# Altium schematic symbol library PART.SCHLIB: 421 symbols (part 3 of 4)
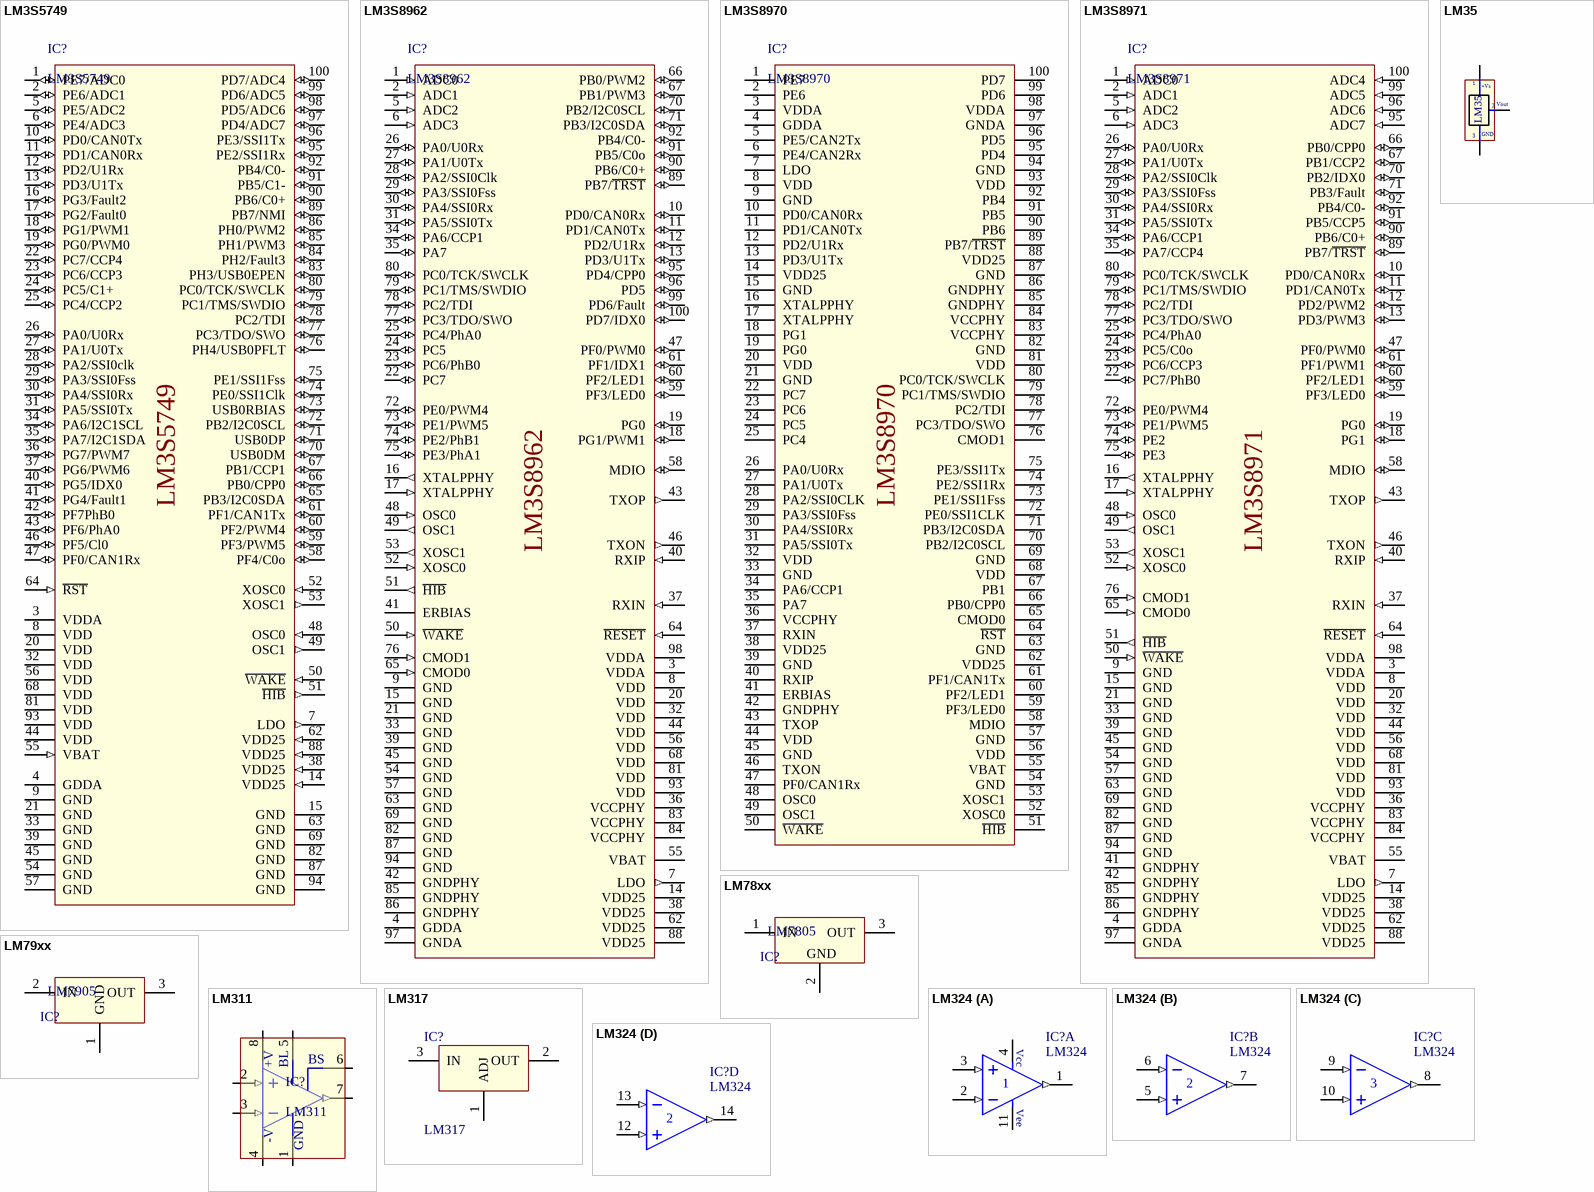
[diagram p20: symbols LM3S5749 to LM324]

## LM3S5749
designator IC?
Stellaris® LM3S5749 Microcontroller; MCU: LM3S5B91,LM3S5U91,LM3S5791
footprint TQFP-100-14x14 (Thin QFP, 100-Leads, Body 14x14mm, Pitch 0.5mm, IPC Low Density)
pins: 1 PE7/ADC0 (io), 2 PE6/ADC1 (io), 3 VDDA, 4 GDDA, 5 PE5/ADC2 (io), 6 PE4/ADC3 (io), 7 LDO (out), 8 VDD, 9 GND, 10 PD0/CAN0Tx (io), 11 PD1/CAN0Rx (io), 12 PD2/U1Rx (io), 13 PD3/U1Tx (io), 14 VDD25 (in), 15 GND, 16 PG3/Fault2 (io), 17 PG2/Fault0 (io), 18 PG1/PWM1 (io), 19 PG0/PWM0 (io), 20 VDD, 21 GND, 22 PC7/CCP4 (io), 23 PC6/CCP3 (io), 24 PC5/C1+ (io), 25 PC4/CCP2 (io), 26 PA0/U0Rx (io), 27 PA1/U0Tx (io), 28 PA2/SSI0clk (io), 29 PA3/SSI0Fss (io), 30 PA4/SSI0Rx (io), 31 PA5/SSI0Tx (io), 32 VDD, 33 GND, 34 PA6/I2C1SCL (io), 35 PA7/I2C1SDA (io), 36 PG7/PWM7 (io), 37 PG6/PWM6 (io), 38 VDD25 (in), 39 GND, 40 PG5/IDX0 (io), 41 PG4/Fault1 (io), 42 PF7PhB0 (io), 43 PF6/PhA0 (io), 44 VDD, 45 GND, 46 PF5/Cl0 (io), 47 PF0/CAN1Rx (io), 48 OSC0 (in), 49 OSC1 (out), 50 ~{WAKE} (in), 51 ~{HIB} (out), 52 XOSC0 (in), 53 XOSC1 (out), 54 GND, 55 VBAT (in), 56 VDD, 57 GND, 58 PF4/C0o (io), 59 PF3/PWM5 (io), 60 PF2/PWM4 (io), 61 PF1/CAN1Tx (io), 62 VDD25 (in), 63 GND, 64 ~{RST} (in), 65 PB3/I2C0SDA (io), 66 PB0/CPP0 (io), 67 PB1/CCP1 (io), 68 VDD, 69 GND, 70 USB0DM (io), 71 USB0DP (io), 72 PB2/I2C0SCL (io), 73 USB0RBIAS (io), 74 PE0/SSI1Clk (io), 75 PE1/SSI1Fss (io), 76 PH4/USB0PFLT (io), 77 PC3/TDO/SWO (io), 78 PC2/TDI (io), 79 PC1/TMS/SWDIO (io), 80 PC0/TCK/SWCLK (io), 81 VDD, 82 GND, 83 PH3/USB0EPEN (io), 84 PH2/Fault3 (io), 85 PH1/PWM3 (io), 86 PH0/PWM2 (io), 87 GND, 88 VDD25 (in), 89 PB7/NMI (io), 90 PB6/C0+ (io), 91 PB5/C1- (io), 92 PB4/C0- (io), 93 VDD, 94 GND, 95 PE2/SSI1Rx (io), 96 PE3/SSI1Tx (io), 97 PD4/ADC7 (io), 98 PD5/ADC6 (io), 99 PD6/ADC5 (io), 100 PD7/ADC4 (io)

## LM3S8962
designator IC?
Stellaris® LM3S8962 Microcontroller
footprint TQFP-100-14x14 (Thin QFP, 100-Leads, Body 14x14mm, Pitch 0.5mm, IPC Low Density)
pins: 1 ADC0 (in), 2 ADC1 (in), 3 VDDA, 4 GDDA, 5 ADC2 (in), 6 ADC3 (in), 7 LDO (out), 8 VDD, 9 GND, 10 PD0/CAN0Rx (io), 11 PD1/CAN0Tx (io), 12 PD2/U1Rx (io), 13 PD3/U1Tx (io), 14 VDD25, 15 GND, 16 XTALPPHY (out), 17 XTALPPHY (in), 18 PG1/PWM1 (io), 19 PG0 (io), 20 VDD, 21 GND, 22 PC7 (io), 23 PC6/PhB0 (io), 24 PC5 (io), 25 PC4/PhA0 (io), 26 PA0/U0Rx (io), 27 PA1/U0Tx (io), 28 PA2/SSI0Clk (io), 29 PA3/SSI0Fss (io), 30 PA4/SSI0Rx (io), 31 PA5/SSI0Tx (io), 32 VDD, 33 GND, 34 PA6/CCP1 (io), 35 PA7 (io), 36 VCCPHY, 37 RXIN (in), 38 VDD25, 39 GND, 40 RXIP (in), 41 ERBIAS, 42 GNDPHY, 43 TXOP (out), 44 VDD, 45 GND, 46 TXON (out), 47 PF0/PWM0 (io), 48 OSC0 (in), 49 OSC1 (out), 50 ~{WAKE} (in), 51 ~{HIB} (out), 52 XOSC0 (in), 53 XOSC1 (out), 54 GND, 55 VBAT, 56 VDD, 57 GND, 58 MDIO (io), 59 PF3/LED0 (io), 60 PF2/LED1 (io), 61 PF1/IDX1 (io), 62 VDD25, 63 GND, 64 ~{RESET} (in), 65 CMOD0 (in), 66 PB0/PWM2 (io), 67 PB1/PWM3 (io), 68 VDD, 69 GND, 70 PB2/I2C0SCL (io), 71 PB3/I2C0SDA (io), 72 PE0/PWM4 (io), 73 PE1/PWM5 (io), 74 PE2/PhB1 (io), 75 PE3/PhA1 (io), 76 CMOD1 (in), 77 PC3/TDO/SWO (io), 78 PC2/TDI (io), 79 PC1/TMS/SWDIO (io), 80 PC0/TCK/SWCLK (io), 81 VDD, 82 GND, 83 VCCPHY, 84 VCCPHY, 85 GNDPHY, 86 GNDPHY, 87 GND, 88 VDD25, 89 PB7/~{TRST} (io), 90 PB6/C0+ (io), 91 PB5/C0o (io), 92 PB4/C0- (io), 93 VDD, 94 GND, 95 PD4/CPP0 (io), 96 PD5 (io), 97 GNDA, 98 VDDA, 99 PD6/Fault (io), 100 PD7/IDX0 (io)

## LM3S8970
designator IC?
Stellaris® LM3S8970 Microcontroller
footprint TQFP-100-14x14 (Thin QFP, 100-Leads, Body 14x14mm, Pitch 0.5mm, IPC Low Density)
pins: 1 PE7, 2 PE6, 3 VDDA, 4 GDDA, 5 PE5/CAN2Tx, 6 PE4/CAN2Rx, 7 LDO, 8 VDD, 9 GND, 10 PD0/CAN0Rx, 11 PD1/CAN0Tx, 12 PD2/U1Rx, 13 PD3/U1Tx, 14 VDD25, 15 GND, 16 XTALPPHY, 17 XTALPPHY, 18 PG1, 19 PG0, 20 VDD, 21 GND, 22 PC7, 23 PC6, 24 PC5, 25 PC4, 26 PA0/U0Rx, 27 PA1/U0Tx, 28 PA2/SSI0CLK, 29 PA3/SSI0Fss, 30 PA4/SSI0Rx, 31 PA5/SSI0Tx, 32 VDD, 33 GND, 34 PA6/CCP1, 35 PA7, 36 VCCPHY, 37 RXIN, 38 VDD25, 39 GND, 40 RXIP, 41 ERBIAS, 42 GNDPHY, 43 TXOP, 44 VDD, 45 GND, 46 TXON, 47 PF0/CAN1Rx, 48 OSC0, 49 OSC1, 50 ~{WAKE}, 51 ~{HIB}, 52 XOSC0, 53 XOSC1, 54 GND, 55 VBAT, 56 VDD, 57 GND, 58 MDIO, 59 PF3/LED0, 60 PF2/LED1, 61 PF1/CAN1Tx, 62 VDD25, 63 GND, 64 ~{RST}, 65 CMOD0, 66 PB0/CPP0, 67 PB1, 68 VDD, 69 GND, 70 PB2/I2C0SCL, 71 PB3/I2C0SDA, 72 PE0/SSI1CLK, 73 PE1/SSI1Fss, 74 PE2/SSI1Rx, 75 PE3/SSI1Tx, 76 CMOD1, 77 PC3/TDO/SWO, 78 PC2/TDI, 79 PC1/TMS/SWDIO, 80 PC0/TCK/SWCLK, 81 VDD, 82 GND, 83 VCCPHY, 84 VCCPHY, 85 GNDPHY, 86 GNDPHY, 87 GND, 88 VDD25, 89 PB7/~{TRST}, 90 PB6, 91 PB5, 92 PB4, 93 VDD, 94 GND, 95 PD4, 96 PD5, 97 GNDA, 98 VDDA, 99 PD6, 100 PD7

## LM3S8971
designator IC?
Stellaris® LM3S8971 Microcontroller
footprint TQFP-100-14x14 (Thin QFP, 100-Leads, Body 14x14mm, Pitch 0.5mm, IPC Low Density)
pins: 1 ADC0 (in), 2 ADC1 (in), 3 VDDA, 4 GDDA, 5 ADC2 (in), 6 ADC3 (in), 7 LDO (out), 8 VDD, 9 GND, 10 PD0/CAN0Rx (io), 11 PD1/CAN0Tx (io), 12 PD2/PWM2 (io), 13 PD3/PWM3 (io), 14 VDD25, 15 GND, 16 XTALPPHY (out), 17 XTALPPHY (in), 18 PG1 (io), 19 PG0 (io), 20 VDD, 21 GND, 22 PC7/PhB0 (io), 23 PC6/CCP3 (io), 24 PC5/C0o (io), 25 PC4/PhA0 (io), 26 PA0/U0Rx (io), 27 PA1/U0Tx (io), 28 PA2/SSI0Clk (io), 29 PA3/SSI0Fss (io), 30 PA4/SSI0Rx (io), 31 PA5/SSI0Tx (io), 32 VDD, 33 GND, 34 PA6/CCP1 (io), 35 PA7/CCP4 (io), 36 VCCPHY, 37 RXIN (in), 38 VDD25, 39 GND, 40 RXIP (in), 41 GNDPHY, 42 GNDPHY, 43 TXOP (out), 44 VDD, 45 GND, 46 TXON (out), 47 PF0/PWM0 (io), 48 OSC0 (in), 49 OSC1 (out), 50 ~{WAKE} (in), 51 ~{HIB} (out), 52 XOSC0 (in), 53 XOSC1 (out), 54 GND, 55 VBAT, 56 VDD, 57 GND, 58 MDIO (io), 59 PF3/LED0 (io), 60 PF2/LED1 (io), 61 PF1/PWM1 (io), 62 VDD25, 63 GND, 64 ~{RESET} (in), 65 CMOD0 (in), 66 PB0/CPP0 (io), 67 PB1/CCP2 (io), 68 VDD, 69 GND, 70 PB2/IDX0 (io), 71 PB3/Fault (io), 72 PE0/PWM4 (io), 73 PE1/PWM5 (io), 74 PE2 (io), 75 PE3 (io), 76 CMOD1 (in), 77 PC3/TDO/SWO (io), 78 PC2/TDI (io), 79 PC1/TMS/SWDIO (io), 80 PC0/TCK/SWCLK (io), 81 VDD, 82 GND, 83 VCCPHY, 84 VCCPHY, 85 GNDPHY, 86 GNDPHY, 87 GND, 88 VDD25, 89 PB7/~{TRST} (io), 90 PB6/C0+ (io), 91 PB5/CCP5 (io), 92 PB4/C0- (io), 93 VDD, 94 GND, 95 ADC7 (in), 96 ADC6 (in), 97 GNDA, 98 VDDA, 99 ADC5 (in), 100 ADC4 (in)

## LM35
designator U?
Teminal; Value: LM35
footprint QTO-92 (TO-92)
pins: 1 +Vs, 2 Vout, 3 -
text: GND

## LM78xx
designator IC?, comment LM7805
On ap +, from + 5 to + 24VDC; Value: LM7805
footprint QTO-220 (TO-220 - 1-2-3)
footprint QTO-92 (TO-92)
footprint QTO-220H1 (TO-220 - 1-2-3)
pins: 1 IN, 2 GND, 3 OUT

## LM79xx
designator IC?, comment LM7905
On ap -, from - 5 to - 24VDC; Description: Output I = 1A; Value: LM7905
footprint QTO-220 (TO-220 - 1-2-3)
footprint qto-220h1 (TO-220 - 1-2-3)
pins: 1 GND, 2 IN, 3 OUT

## LM311
designator IC?
Voltage Comparator; Value: DIP 8; Value: LM311
footprint DIP8/W0.3 (8 PIN, W 300mil, Pin to pin 100mil)
footprint SO-8 (8-Pin Small Outline Integrated Circuit 1.27 mm Pitch, IPC Medium Density)
pins: 1 F2 (power), 2 IN+ (in), 3 IN- (in), 4 GND (power), 5 F1 (power), 6 F2 (power), 7 OUT (out), 8 V+ (power)
text: +V; BL; BS; -V

## LM317
designator IC?
Adj Voltage +1.2 -> +37V; Value: LM317
footprint QTO-220 (TO-220)
pins: 1 ADJ, 2 OUT, 3 IN

## LM324
designator IC?
Op x 4; Value: LM324
footprint DIP14/W0.3 (14PIN, W 300mil)
part A pins: 1 OUT (out), 2 IN- (in), 3 IN+ (in), 4 V+ (power), 11 V- (power)
part B pins: 5 IN+ (in), 6 IN- (in), 7 OUT (out)
part C pins: 8 OUT (out), 9 IN- (in), 10 IN+ (in)
part D pins: 12 IN+ (in), 13 IN- (in), 14 OUT (out)
part A text: Vcc; Vee

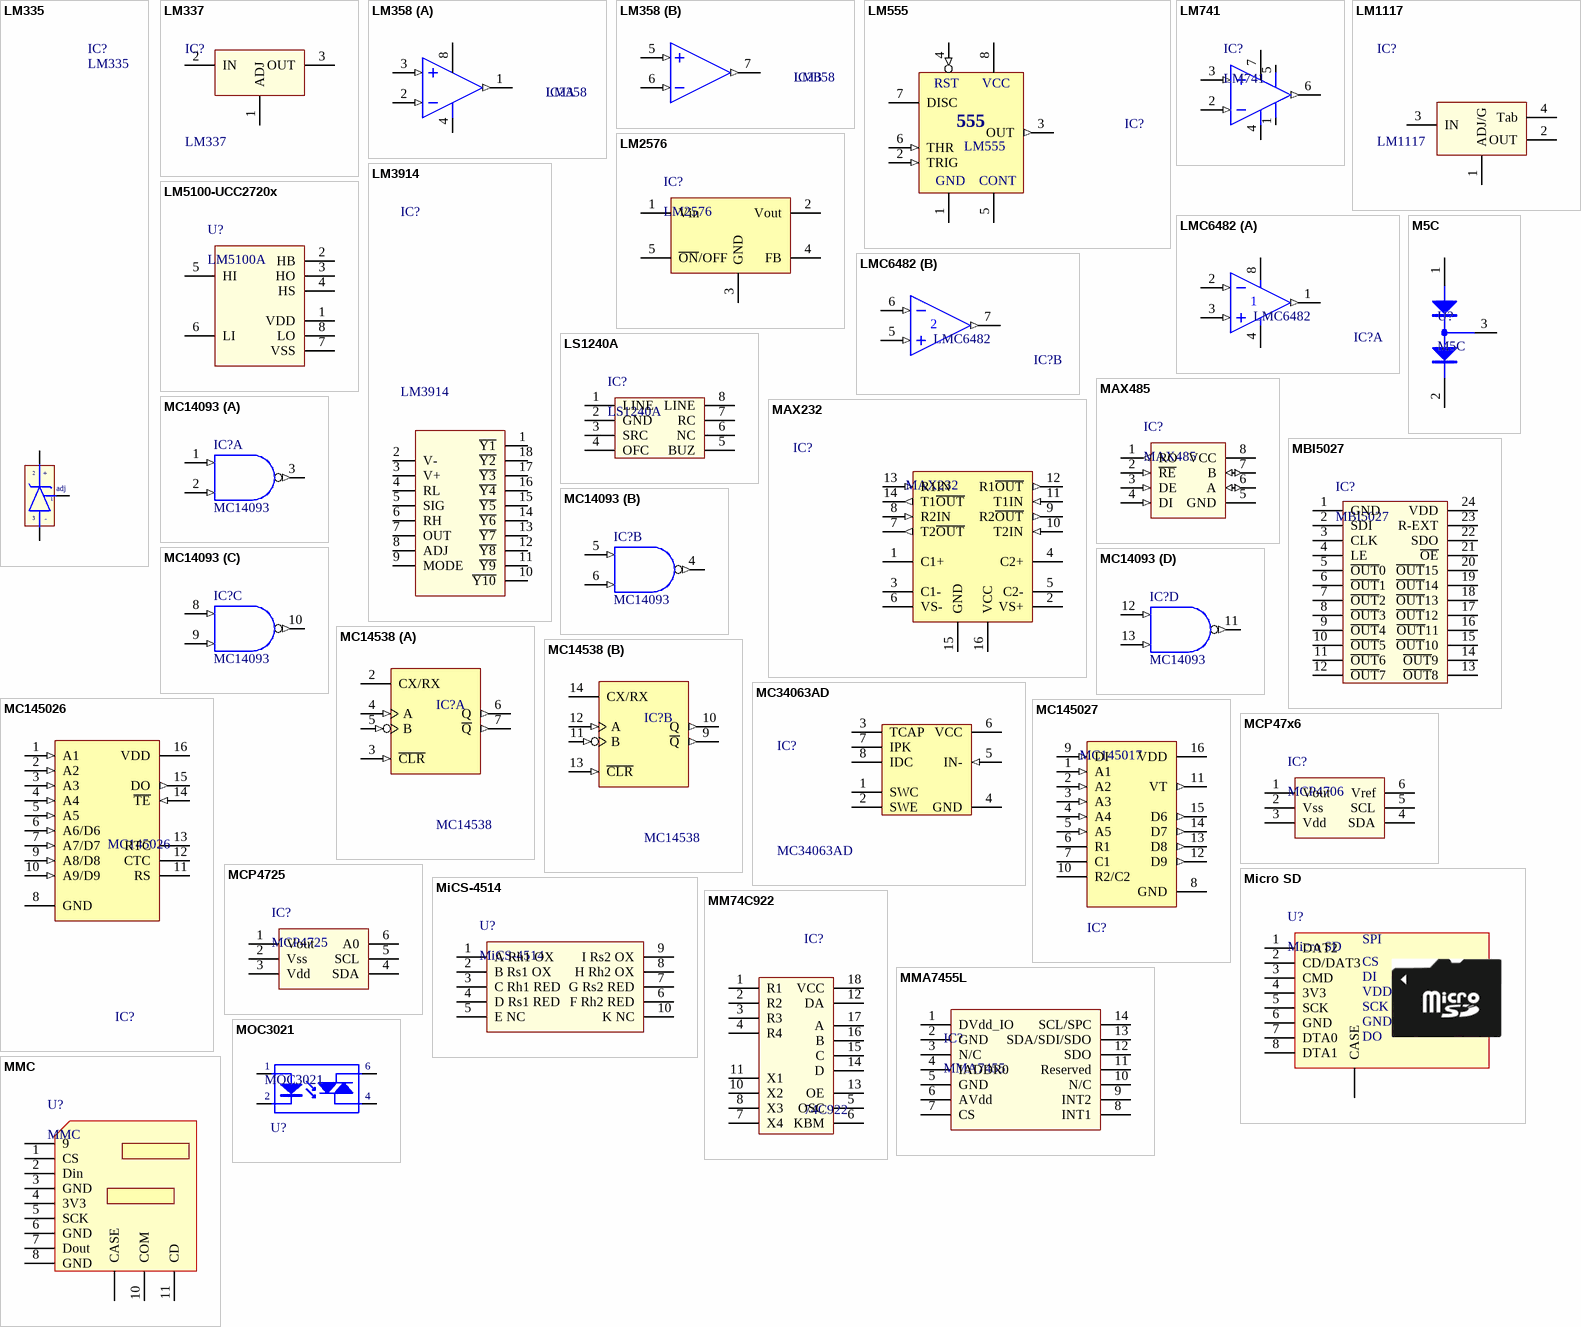
[diagram p13: symbols LM335 to MOC3021]

## LM335
designator IC?
Teminal; Value: LM335
footprint QTO-92 (TO-92)
pins: 1 adj, 2 +, 3 -

## LM337
designator IC?
On ap (-)     -1.2 -> - 37V; Value: LM337
footprint QTO-220 (TO-220 - 1-2-3)
pins: 1 ADJ, 2 IN, 3 OUT

## LM358
designator IC?
Low-Power Dual Operational Amplifier; Value: LM358
footprint DIP8/W0.3 (8 PIN, W 300mil)
3D model DIP8 (PCB3D Model)
footprint SO-8N (SOP, 8-Leads, Body 5.3x5.3mm, Pitch 1.27mm, IPC Medium Density)
part A pins: 1 OUT (out), 2 IN- (in), 3 IN+ (in), 4 -V, 8 +V
part B pins: 5 IN+ (in), 6 IN- (in), 7 OUT (out)

## LM555
designator IC?
Timer; Value: LM555
footprint DIP8/W0.3 (8 PIN, W 300mil)
3D model DIP8 (PCB3D Model)
pins: 1 GND (power), 2 TRIG (in), 3 OUT (out), 4 RST (in), 5 CONT, 6 THR (in), 7 DISC (oc), 8 VCC (power)
text: 555

## LM741
designator IC?
Single OA
footprint DIP8/W0.3 (8 PIN, W 300mil, Pin to pin 100mil)
pins: 1 Vos, 2 IN- (in), 3 IN+ (in), 4 -V, 5 Vos, 6 OUT (out), 7 +V

## LM1117
designator IC?
3v3; Value: LM317
footprint SOT223-4N (SOT223, 4-Leads, Body 6.5x3.5mm, Pitch 2.3mm, Lead Span 7mm, IPC Medium Density)
pins: 1 ADJ/G, 2 OUT, 3 IN, 4 Tab

## LM2576
designator IC?
footprint QTO-220-5S
footprint QTO-220-5 (TO-220 - 1-2-3)
footprint QTO-263 (SMD-5 pin, pin to pin 1.7mm)
pins: 1 Vin, 2 Vout, 3 GND, 4 FB, 5 ~{ON}/OFF

## LM3914
designator IC?
Value: LM3914
footprint DIP18/W0.3 (18 PIN, W 300mil)
3D model DIP18 (PCB3D Model)
pins: 1 ~{Y1}, 2 V-, 3 V+, 4 RL, 5 SIG, 6 RH, 7 OUT, 8 ADJ, 9 MODE, 10 ~{Y10}, 11 ~{Y9}, 12 ~{Y8}, 13 ~{Y7}, 14 ~{Y6}, 15 ~{Y5}, 16 ~{Y4}, 17 ~{Y3}, 18 ~{Y2}

## LM5100-UCC2720x
designator U?, comment LM5100A
High Voltage High-Side and Low-Side Gate  Drivers; Name: LM5100A/B/C; Name: LM5101A/B/C
footprint SO-8N (SOP, 8-Leads, Body 5.3x5.3mm, Pitch 1.27mm, IPC Medium Density)
footprint DIP8/W0.3 (8 PIN, W 300mil, Pin to pin 100mil)
pins: 1 VDD, 2 HB, 3 HO, 4 HS, 5 HI, 6 LI, 7 VSS, 8 LO

## LMC6482
designator IC?
Dual OA; Value: LMC6482
footprint DIP8/W0.3 (8 PIN, W 300mil)
3D model DIP8 (PCB3D Model)
part A pins: 1 OUT (out), 2 IN- (in), 3 IN+ (in), 4 V- (power), 8 V+ (power)
part B pins: 5 IN+ (in), 6 IN- (in), 7 OUT (out)

## LS1240A
designator IC?
Electronic Two-Tone Ringer
footprint DIP8/W0.3 (8 PIN, W 300mil, Pin to pin 100mil)
pins: 1 LINE, 2 GND, 3 SRC, 4 OFC, 5 BUZ, 6 NC, 7 RC, 8 LINE

## M5C
designator U?
MMBD7000LT1 - Diode
footprint SOT23 (SOT 23 _ 1-3-2)
pins: 1, 2, 3

## MAX232
designator IC?
Dual EIA-232 Driver/Receiver; Value: MAX232
footprint DIP16/W0.3 (16 PIN, W 300mil)
footprint SO-G16 (Footprint not found)
pins: 1 C1+, 2 VS+ (power), 3 C1-, 4 C2+, 5 C2-, 6 VS- (power), 7 T2~{OUT} (out), 8 R2IN (in), 9 R2~{OUT} (out), 10 T2IN (in), 11 T1IN (in), 12 R1~{OUT} (out), 13 R1IN (in), 14 T1~{OUT} (out), 15 GND (power), 16 VCC (power)

## MAX485
designator IC?
RS232 - RS485 (Same sn75176)
footprint DIP8/W0.3 (8 PIN, W 300mil, Pin to pin 100mil)
footprint SO-8N (SOP, 8-Leads, Body 5.3x5.3mm, Pitch 1.27mm, IPC Medium Density)
pins: 1 RO (out) "Receiver Output", 2 ~{RE} (in) "Receiver Enable Output", 3 DE (in) "Driver Enable Output", 4 DI (in) "Driver Input", 5 GND, 6 A (io) "RI & NoneDO", 7 B (io) "NoneDI", 8 VCC

## MBI5027
designator IC?
16 bit Constant Current LED; Creat by: VanDungEvn@Gmail.com; Compoment same: SM16126
footprint SOP_24M_127 (SOP, 24-Leads, Body 15.6x8.1mm, Pitch 1.27mm, IPC Low Density)
pins: 1 GND, 2 SDI, 3 CLK, 4 LE, 5 ~{OUT}0, 6 ~{OUT}1, 7 ~{OUT}2, 8 ~{OUT}3, 9 ~{OUT}4, 10 ~{OUT}5, 11 ~{OUT}6, 12 ~{OUT}7, 13 ~{OUT}8, 14 ~{OUT}9, 15 ~{OUT}10, 16 ~{OUT}11, 17 ~{OUT}12, 18 ~{OUT}13, 19 ~{OUT}14, 20 ~{OUT}15, 21 ~{OE}, 22 SDO, 23 R-EXT, 24 VDD

## MC14093
designator IC?
Quad 2-Input NAND Schmitt Trigger; Value: MC14093
footprint DIP14/W0.3 (14PIN, W 300mil)
pins on every part: 7 GND (power) hidden to GND, 14 VDD (power) hidden to VDD
part A pins: 1 A (in), 2 B (in), 3 ~{Y} (out)
part B pins: 4 ~{Y} (out), 5 A (in), 6 B (in)
part C pins: 8 A (in), 9 B (in), 10 ~{Y} (out)
part D pins: 11 ~{Y} (out), 12 A (in), 13 B (in)

## MC14538
designator IC?
Dual Precision Retriggerable/Resettable Monostable Multivibrator; Value: MC14538
footprint DIP16/W0.3 (16 PIN, W 300mil)
pins on every part: 1 GND (power) hidden to GND, 8 GND (power) hidden to GND, 15 GND (power) hidden to GND, 16 VDD (power) hidden to VDD
part A pins: 2 CX/RX, 3 ~{CLR} (in), 4 A (in), 5 B (in), 6 Q (out), 7 ~{Q} (out)
part B pins: 9 ~{Q} (out), 10 Q (out), 11 B (in), 12 A (in), 13 ~{CLR} (in), 14 CX/RX

## MC34063AD
designator IC?
DC-to-DC Converter Control Circuit; Published: 15-Apr-2002; LatestRevisionDate: 13-Apr-2006; LatestRevisionNote: IPC-7351 Footprint Added.; DatasheetVersion: 1996; PackageVersion: 1998; PackageReference: 751-05; Publisher: Altium Limited; PackageDescription: 8-Pin Small Outline Integrated Circuit 1.27 mm Pitch; Code_JEDEC: MS-012-AA; Code_IPC: SOIC127P600-8; ComponentLink1Description: Manufacturer Link; ComponentLink1URL: http://www.onsemi.com/site/products/taxonomy/0,4438,503,00.html; ComponentLink2Description: Datasheet; ComponentLink2URL: http://www.onsemi.com/pub/Collateral/MC34063A-D.PDF
footprint SO-G8/Z7.45 (Small Outline; 8 Leads; Body Width 3.9 mm; Pitch 1.27 mm)
footprint DIP8/W0.3 (8 PIN, W 300mil)
pins: 1 SWC, 2 SWE, 3 TCAP, 4 GND (power), 5 IN- (in), 6 VCC (power), 7 IPK, 8 IDC (oc)

## MC145026
designator IC?
Encoder Remote; Value: MC145026
footprint DIP16/W0.3 (16 PIN, W 300mil)
pins: 1 A1 (in), 2 A2 (in), 3 A3 (in), 4 A4 (in), 5 A5 (in), 6 A6/D6 (in), 7 A7/D7 (in), 8 GND (power), 9 A8/D8 (in), 10 A9/D9 (in), 11 RS, 12 CTC, 13 RTC, 14 ~{TE} (in), 15 DO (out), 16 VDD (power)

## MC145027
designator IC?, comment MC145017
Decoder Remote; Value: MC145027
footprint DIP16/W0.3 (16 PIN, W 300mil)
pins: 1 A1 (in), 2 A2 (in), 3 A3 (in), 4 A4 (in), 5 A5 (in), 6 R1, 7 C1, 8 GND (power), 9 DI (in), 10 R2/C2, 11 VT (out), 12 D9 (out), 13 D8 (out), 14 D7 (out), 15 D6 (out), 16 VDD (power)

## MCP47x6
designator IC?, comment MCP4706
8-10-12 Bits Volttage Output Digital-to-Analog Converter with EEPROM and I2C Interface
footprint SOT23-6 (Footprint not found)
pins: 1 Vout, 2 Vss, 3 Vdd, 4 SDA, 5 SCL, 6 Vref

## MCP4725
designator IC?
12 Bits Volttage Output Digital-to-Analog Converter with EEPROM and I2C Interface
footprint SOT23-6 (Footprint not found)
pins: 1 Vout, 2 Vss, 3 Vdd, 4 SDA, 5 SCL, 6 A0

## Micro SD
designator U?
footprint MicroSD-GTFP08121HEU (Push anh lock, push end open (15.2x14.0x1.88mm))
pins: 0 CASE, 1 DAT2, 2 CD/DAT3, 3 CMD, 4 3V3, 5 SCK, 6 GND, 7 DTA0, 8 DTA1
text: SPI; CS; DI; VDD; DO

## MiCS-4514
designator U?
Combined CO and NO2 Sensor
footprint SO10-MICS-4514 (10 pn)
pins: 1 A Rh1 OX, 2 B Rs1 OX, 3 C Rh1 RED, 4 D Rs1 RED, 5 E NC, 6 F Rh2 RED, 7 G Rs2 RED, 8 H Rh2 OX, 9 I Rs2 OX, 10 K NC

## MM74C922
designator IC?, comment 74C922
16 Key Encoder With Debouncer; Value: MM74C922
footprint DIP18/W0.3 (18 PIN, W 300mil)
3D model DIP18 (PCB3D Model)
pins: 1 R1, 2 R2, 3 R3, 4 R4, 5 OSC, 6 KBM, 7 X4, 8 X3, 9 GND hidden to GND, 10 X2, 11 X1, 12 DA, 13 OE, 14 D, 15 C, 16 B, 17 A, 18 VCC

## MMA7455L
designator IC?, comment MMA7455
±2g/±4g/±8g Three Axis Low-g  Digital Output Accelerometer
footprint MMA7455 (Footprint not found)
pins: 1 DVdd_IO, 2 GND, 3 N/C, 4 IADDR0, 5 GND, 6 AVdd, 7 CS, 8 INT1, 9 INT2, 10 N/C, 11 Reserved, 12 SDO, 13 SDA/SDI/SDO, 14 SCL/SPC

## MMC
designator U?
MMC card
footprint MMC
pins: 0 CASE, 1 CS, 2 Din, 3 GND, 4 3V3, 5 SCK, 6 GND, 7 Dout, 8 GND, 9, 10 COM, 11 CD

## MOC3021
designator U?
Single Opto; Value: MOC3021
footprint DIP6/W0.3 (6 PIN, W 300mil)
pins: 1 A "Anode", 2 K "Cathode", 4 E "Emitter", 6 C "Collector"

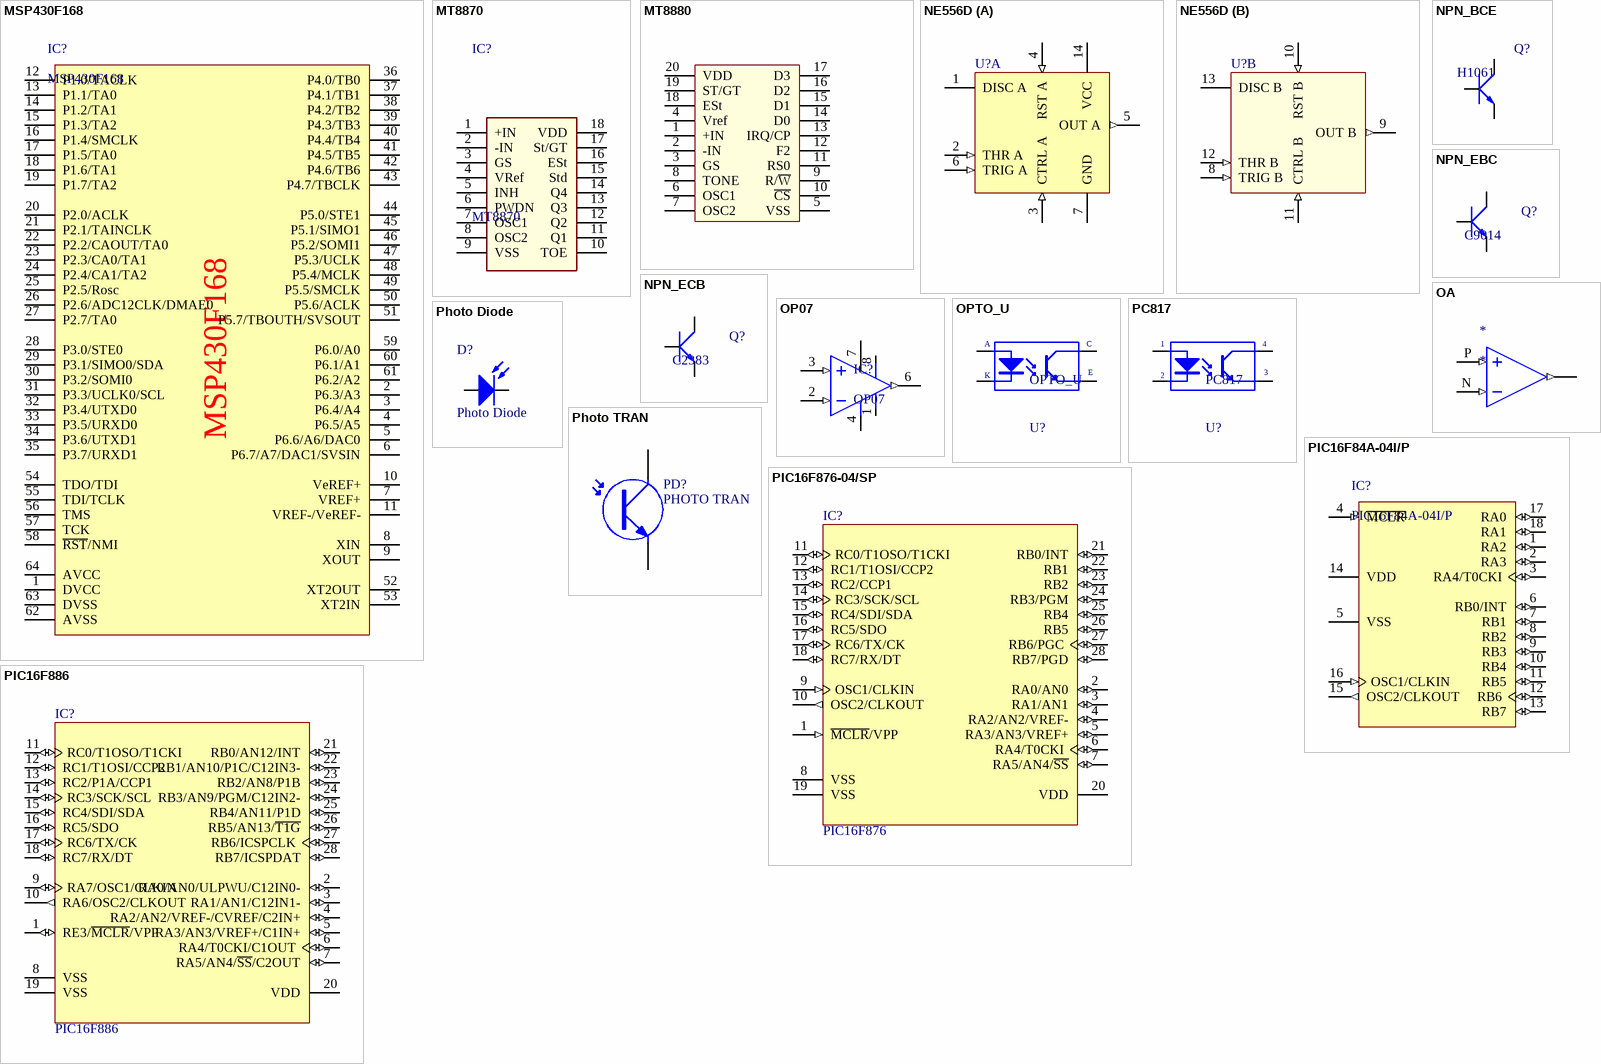
[diagram p14: symbols MSP430F168 to PIC16F886]

## MSP430F168
designator IC?
TI - MIXED SIGNAL MICROCONTROLLER
footprint PQFT-G64
pins: 1 DVCC, 2 P6.3/A3, 3 P6.4/A4, 4 P6.5/A5, 5 P6.6/A6/DAC0, 6 P6.7/A7/DAC1/SVSIN, 7 VREF+, 8 XIN, 9 XOUT, 10 VeREF+, 11 VREF-/VeREF-, 12 P1.0/TACLK, 13 P1.1/TA0, 14 P1.2/TA1, 15 P1.3/TA2, 16 P1.4/SMCLK, 17 P1.5/TA0, 18 P1.6/TA1, 19 P1.7/TA2, 20 P2.0/ACLK, 21 P2.1/TAINCLK, 22 P2.2/CAOUT/TA0, 23 P2.3/CA0/TA1, 24 P2.4/CA1/TA2, 25 P2.5/Rosc, 26 P2.6/ADC12CLK/DMAE0, 27 P2.7/TA0, 28 P3.0/STE0, 29 P3.1/SIMO0/SDA, 30 P3.2/SOMI0, 31 P3.3/UCLK0/SCL, 32 P3.4/UTXD0, 33 P3.5/URXD0, 34 P3.6/UTXD1, 35 P3.7/URXD1, 36 P4.0/TB0, 37 P4.1/TB1, 38 P4.2/TB2, 39 P4.3/TB3, 40 P4.4/TB4, 41 P4.5/TB5, 42 P4.6/TB6, 43 P4.7/TBCLK, 44 P5.0/STE1, 45 P5.1/SIMO1, 46 P5.2/SOMI1, 47 P5.3/UCLK, 48 P5.4/MCLK, 49 P5.5/SMCLK, 50 P5.6/ACLK, 51 P5.7/TBOUTH/SVSOUT, 52 XT2OUT, 53 XT2IN, 54 TDO/TDI, 55 TDI/TCLK, 56 TMS, 57 TCK, 58 ~{RST}/NMI, 59 P6.0/A0, 60 P6.1/A1, 61 P6.2/A2, 62 AVSS, 63 DVSS, 64 AVCC

## MT8870
designator IC?
DTMF RECEIVER IC MT8870 TESTER; Value: MT8068
footprint DIP18/W0.3 (18 PIN, W 300mil)
pins: 1 +IN, 2 -IN, 3 GS, 4 VRef, 5 INH, 6 PWDN, 7 OSC1, 8 OSC2, 9 VSS, 10 TOE, 11 Q1, 12 Q2, 13 Q3, 14 Q4, 15 Std, 16 ESt, 17 St/GT, 18 VDD

## MT8880
designator IC?, comment MT8880C
Integrated DTMF Transceiver; Value: DIP20; Value: MT8880C
footprint DIP20/W0.3 (DIP 20, 20 PIN, W 300mil.)
pins: 1 +IN, 2 -IN, 3 GS, 4 Vref, 5 VSS, 6 OSC1, 7 OSC2, 8 TONE, 9 R/~{W}, 10 ~{CS}, 11 RS0, 12 F2, 13 IRQ/CP, 14 D0, 15 D1, 16 D2, 17 D3, 18 ESt, 19 ST/GT, 20 VDD

## NE556D
designator U?
Dual Timing Circuit; Note: The data book shows the d suffix as 8 pin.  I'm assuming this is a 14 pin though.; Published: 17-Jul-2002; LatestRevisionDate: 13-Apr-2006; LatestRevisionNote: IPC-7351 Footprint Added.; DatasheetVersion: 1988; PackageVersion: 1991; PackageReference: 751A-02; Publisher: Altium Limited; PackageDescription: 14-Pin Small Outline Integrated Circuit 1.27 mm Pitch; Code_IPC: SOIC127P600-14; ComponentLink1Description: Manufacturer Link; ComponentLink1URL: http://www.onsemi.com/site/products/parts/0,4454,637,00.html
footprint DIP14/W0.3 (14PIN, W 300mil, Pin to pin 100mil)
part A pins: 1 DISC A (oc), 2 THR A (in), 3 CTRL A (in), 4 RST A (in), 5 OUT A (out), 6 TRIG A (in), 7 GND (power), 14 VCC (power)
part B pins: 8 TRIG B (in), 9 OUT B (out), 10 RST B (in), 11 CTRL B (in), 12 THR B (in), 13 DISC B (oc)

## NPN_BCE
designator Q?, comment H1061
P 1W, BCE; Value: TIP41
footprint QTO-220 (TO-220)
pins: 1 B, 2 C, 3 E

## NPN_EBC
designator Q?, comment C9014
P 600mW, EBC; Value: C9014
footprint QTO-92 (TO-92)
pins: 1 E, 2 B, 3 C

## NPN_ECB
designator Q?, comment C2383
P 600mW, ECB; Value: C1815
footprint QTO-92 (TO-92)
pins: 1 E, 2 C, 3 B

## OA
designator *
pins: 6 OUT (out), N IN- (in), P IN+ (in)

## OP07
designator IC?
Single OA
footprint DIP8/W0.3 (8 PIN, W 300mil, Pin to pin 100mil)
pins: 1 Vos, 2 IN- (in), 3 IN+ (in), 4 -V, 6 OUT (out), 7 +V, 8 Vos

## OPTO_U
designator U?
Single Opto; Value: TLP5211
footprint OPTO_U (Footprint not found)
pins: A "Anode", C "Collector", E "Emitter", K "Cathode"

## PC817
designator U?
Single Opto; Value: PC817
footprint DIP4/W0.3 (Footprint not found)
pins: 1 A "Anode", 2 K "Cathode", 3 E "Emitter", 4 C "Collector"

## Photo Diode
designator D?
Photosensitive Diode
footprint LED-5 (LED 2 PIN, 5 ly , Only colour)
pins: 1 A, 2 K

## Photo TRAN
designator PD?, comment PHOTO TRAN
Published: 24-Mar-1999; LatestRevisionDate: 17-Jul-2002; LatestRevisionNote: Re-released for DXP Platform.; PackageReference: TO-220_A; Publisher: Altium Limited; Code_JEDEC: TO-220-AC
footprint LED-5 (LED 2 PIN, 5 ly , Only colour)
pins: 1 C, 2 E

## PIC16F84A-04I/P
designator IC?
Enhanced FLASH/EEPROM 8-Bit Microcontroller, 1K (x14-Bit words) FLASH, 68 Bytes RAM, 4 MHz, 18-Pin PDIP, Standard VDD Range, Industrial Temperature; FirstPublished: 11-Oct-2004; LatestRevisionDate: 29-Jan-2009; LatestRevisionNote: Sch. layout revised. 3D Model Removed.; DatasheetVersion: revB, Aug-2001; PackageVersion: revBB, Aug-2009; PackageReference: PDIP300-P18; Publisher: Altium Limited; PackageDescription: 18-Lead Plastic Dual In-Line (P) - 300 mil Body [PDIP]; Supplier 1: Digi-Key; Supplier Part Number 1: PIC16F84A-04I/P-ND; Supplier 2: Farnell; Supplier Part Number 2: 9760881; Supplier 3: Newark; Supplier Part Number 3: 69K7635; Code_JEDEC: MS-001; ComponentLink1Description: Datasheet; ComponentLink1URL: http://ww1.microchip.com/downloads/en/DeviceDoc/35007b.pdf; ComponentLink2Description: Packaging Specification; ComponentLink2URL: http://www.microchip.com/stellent/groups/techpub_sg/documents/packagingspec/en012702.pdf; ComponentLink3Description: Microchip.com Home; ComponentLink3URL: http://www.microchip.com/
footprint DIP18/W0.3 (18 PIN, W 300mil, Pin to pin 100mil)
pins: 1 RA2 (io), 2 RA3 (io), 3 RA4/T0CKI (io), 4 ~{MCLR} (in), 5 VSS (power), 6 RB0/INT (io), 7 RB1 (io), 8 RB2 (io), 9 RB3 (io), 10 RB4 (io), 11 RB5 (io), 12 RB6 (io), 13 RB7 (io), 14 VDD (power), 15 OSC2/CLKOUT (out), 16 OSC1/CLKIN (in), 17 RA0 (io), 18 RA1 (io)

## PIC16F876-04/SP
designator IC?, comment PIC16F876
8-Bit CMOS FLASH Microcontroller, 8K x 14 words FLASH, 368 x 8 Bytes RAM, 4 MHz, 28-Pin PDIP 300mil, 4 to 5.5V VDD Range, Commercial Temperature
footprint PDIP300-28 (DIP, Plastic, Skinny; 28 Leads; Row Spacing 7.62 mm; Pitch 2.54 mm)
3D model PDIP300-28 (DIP, Plastic, Skinny; 28 Leads; Row Spacing 7.62 mm; Pitch 2.54 mm)
footprint DIP28/w0.3 (28 PIN, W 300mil, Pin to pin 100mil)
pins: 1 ~{MCLR}/VPP (in), 2 RA0/AN0 (io), 3 RA1/AN1 (io), 4 RA2/AN2/VREF- (io), 5 RA3/AN3/VREF+ (io), 6 RA4/T0CKI (io), 7 RA5/AN4/~{SS} (io), 8 VSS (power), 9 OSC1/CLKIN (in), 10 OSC2/CLKOUT (out), 11 RC0/T1OSO/T1CKI (io), 12 RC1/T1OSI/CCP2 (io), 13 RC2/CCP1 (io), 14 RC3/SCK/SCL (io), 15 RC4/SDI/SDA (io), 16 RC5/SDO (io), 17 RC6/TX/CK (io), 18 RC7/RX/DT (io), 19 VSS (power), 20 VDD (power), 21 RB0/INT (io), 22 RB1 (io), 23 RB2 (io), 24 RB3/PGM (io), 25 RB4 (io), 26 RB5 (io), 27 RB6/PGC (io), 28 RB7/PGD (io)

## PIC16F886
designator IC?
8-Bit CMOS FLASH Microcontroller, 8K x 14 words FLASH, 368 x 8 Bytes RAM, 4 MHz, 28-Pin PDIP 300mil, 4 to 5.5V VDD Range, Commercial Temperature
footprint PDIP300-28 (DIP, Plastic, Skinny; 28 Leads; Row Spacing 7.62 mm; Pitch 2.54 mm)
3D model PDIP300-28 (DIP, Plastic, Skinny; 28 Leads; Row Spacing 7.62 mm; Pitch 2.54 mm)
footprint DIP28/W0.3 (28 PIN, W 300mil, Pin to pin 100mil)
pins: 1 RE3/~{MCLR}/VPP (io), 2 RA0/AN0/ULPWU/C12IN0- (io), 3 RA1/AN1/C12IN1- (io), 4 RA2/AN2/VREF-/CVREF/C2IN+ (io), 5 RA3/AN3/VREF+/C1IN+ (io), 6 RA4/T0CKI/C1OUT (io), 7 RA5/AN4/~{SS}/C2OUT (io), 8 VSS (power), 9 RA7/OSC1/CLKIN (io), 10 RA6/OSC2/CLKOUT (out), 11 RC0/T1OSO/T1CKI (io), 12 RC1/T1OSI/CCP2 (io), 13 RC2/P1A/CCP1 (io), 14 RC3/SCK/SCL (io), 15 RC4/SDI/SDA (io), 16 RC5/SDO (io), 17 RC6/TX/CK (io), 18 RC7/RX/DT (io), 19 VSS (power), 20 VDD (power), 21 RB0/AN12/INT (io), 22 RB1/AN10/P1C/C12IN3- (io), 23 RB2/AN8/P1B (io), 24 RB3/AN9/PGM/C12IN2- (io), 25 RB4/AN11/P1D (io), 26 RB5/AN13/~{T1G} (io), 27 RB6/ICSPCLK (io), 28 RB7/ICSPDAT (io)

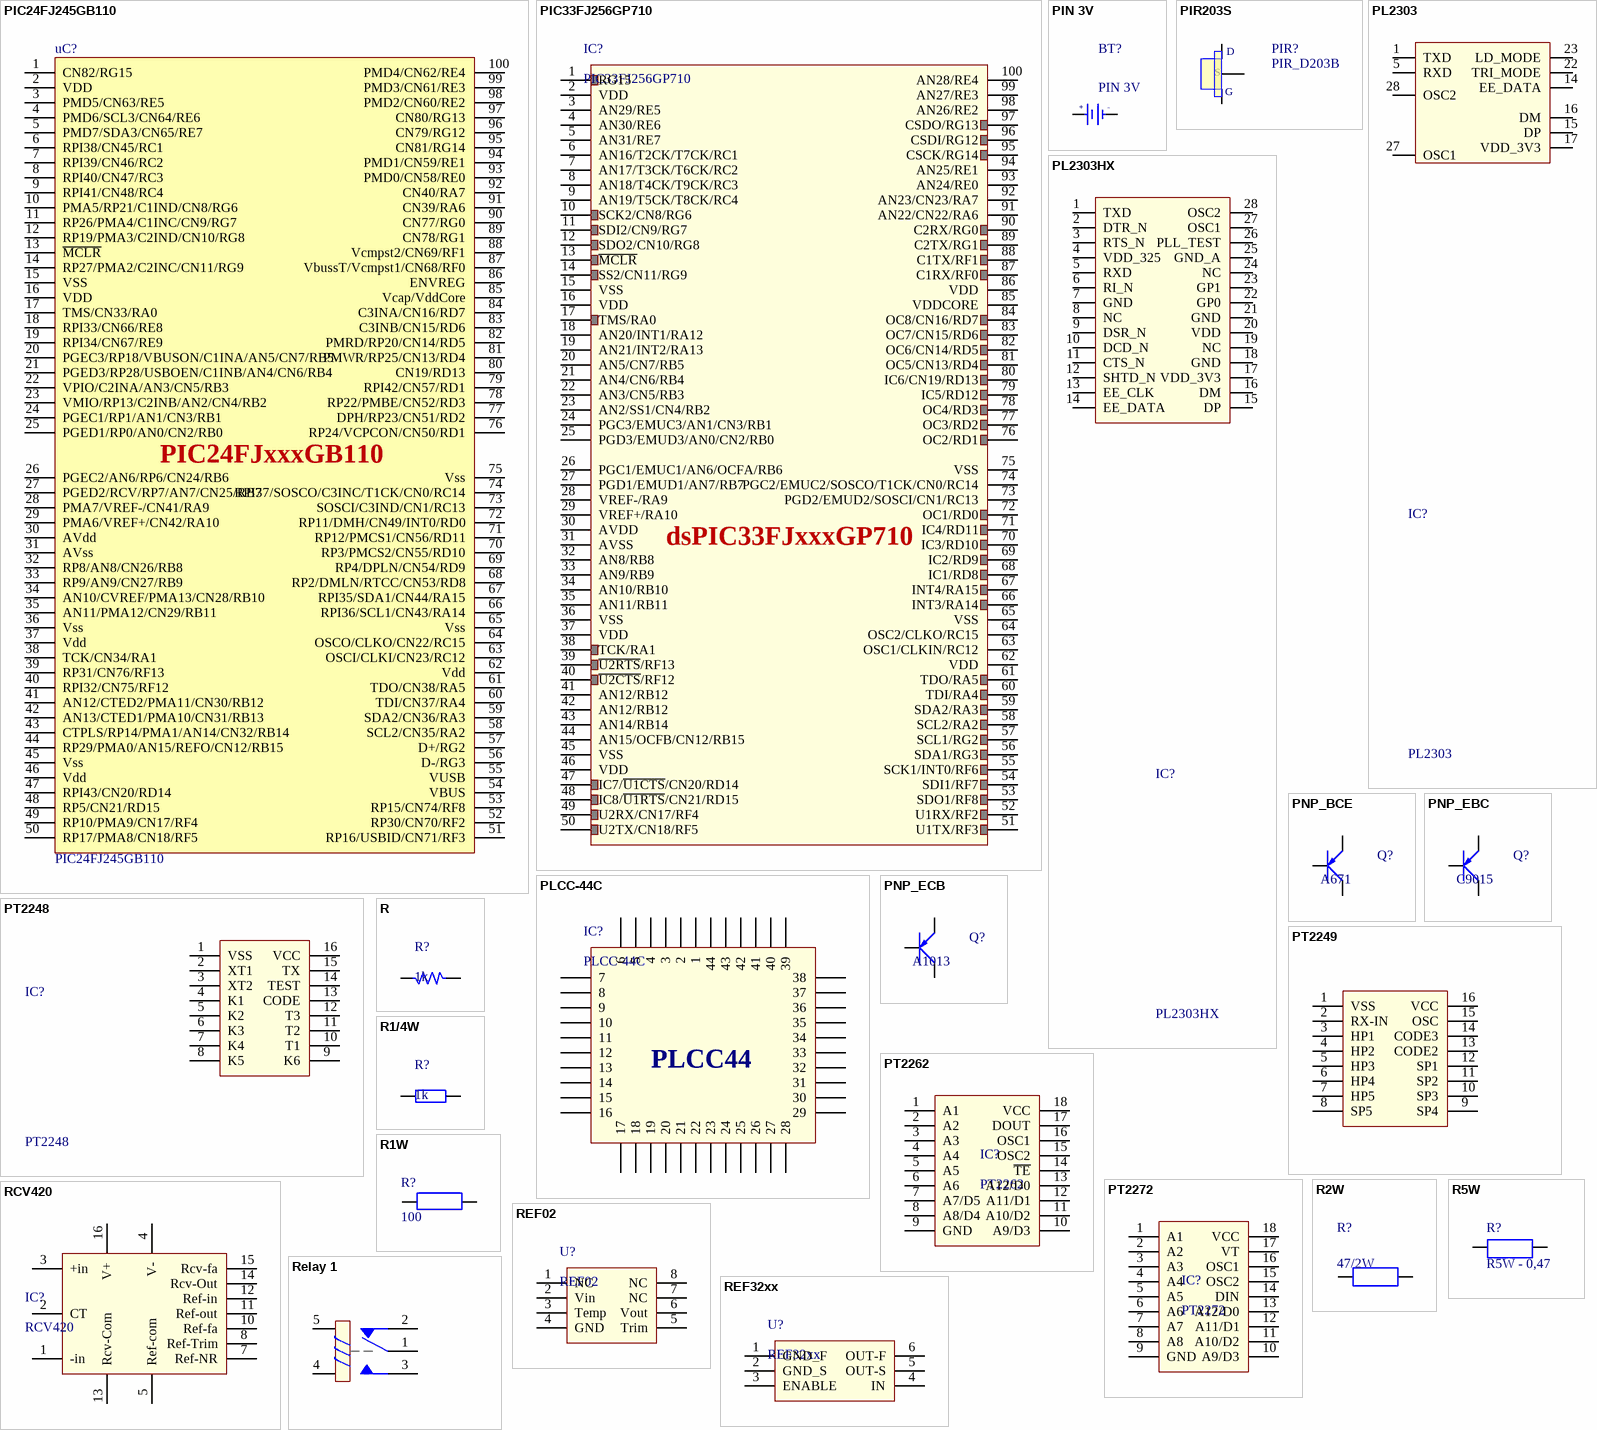
[diagram p15: symbols PIC24FJ245GB110 to Relay 1]

## PIC24FJ245GB110
designator uC?
footprint SQFP12X12-100(N)
footprint TQFP-100-14x14 (Thin QFP, 100-Leads, Body 14x14mm, Pitch 0.5mm, IPC Low Density)
footprint TQFP-100-12X12 (Shrink QFP, 100-Leads, Body 12x12mm, Pitch 0.4mm, IPC High Density)
pins: 1 CN82/RG15, 2 VDD, 3 PMD5/CN63/RE5, 4 PMD6/SCL3/CN64/RE6, 5 PMD7/SDA3/CN65/RE7, 6 RPI38/CN45/RC1, 7 RPI39/CN46/RC2, 8 RPI40/CN47/RC3, 9 RPI41/CN48/RC4, 10 PMA5/RP21/C1IND/CN8/RG6, 11 RP26/PMA4/C1INC/CN9/RG7, 12 RP19/PMA3/C2IND/CN10/RG8, 13 ~{MCLR}, 14 RP27/PMA2/C2INC/CN11/RG9, 15 VSS, 16 VDD, 17 TMS/CN33/RA0, 18 RPI33/CN66/RE8, 19 RPI34/CN67/RE9, 20 PGEC3/RP18/VBUSON/C1INA/AN5/CN7/RB5, 21 PGED3/RP28/USBOEN/C1INB/AN4/CN6/RB4, 22 VPIO/C2INA/AN3/CN5/RB3, 23 VMIO/RP13/C2INB/AN2/CN4/RB2, 24 PGEC1/RP1/AN1/CN3/RB1, 25 PGED1/RP0/AN0/CN2/RB0, 26 PGEC2/AN6/RP6/CN24/RB6, 27 PGED2/RCV/RP7/AN7/CN25/RB7, 28 PMA7/VREF-/CN41/RA9, 29 PMA6/VREF+/CN42/RA10, 30 AVdd, 31 AVss, 32 RP8/AN8/CN26/RB8, 33 RP9/AN9/CN27/RB9, 34 AN10/CVREF/PMA13/CN28/RB10, 35 AN11/PMA12/CN29/RB11, 36 Vss, 37 Vdd, 38 TCK/CN34/RA1, 39 RP31/CN76/RF13, 40 RPI32/CN75/RF12, 41 AN12/CTED2/PMA11/CN30/RB12, 42 AN13/CTED1/PMA10/CN31/RB13, 43 CTPLS/RP14/PMA1/AN14/CN32/RB14, 44 RP29/PMA0/AN15/REFO/CN12/RB15, 45 Vss, 46 Vdd, 47 RPI43/CN20/RD14, 48 RP5/CN21/RD15, 49 RP10/PMA9/CN17/RF4, 50 RP17/PMA8/CN18/RF5, 51 RP16/USBID/CN71/RF3, 52 RP30/CN70/RF2, 53 RP15/CN74/RF8, 54 VBUS, 55 VUSB, 56 D-/RG3, 57 D+/RG2, 58 SCL2/CN35/RA2, 59 SDA2/CN36/RA3, 60 TDI/CN37/RA4, 61 TDO/CN38/RA5, 62 Vdd, 63 OSCI/CLKI/CN23/RC12, 64 OSCO/CLKO/CN22/RC15, 65 Vss, 66 RPI36/SCL1/CN43/RA14, 67 RPI35/SDA1/CN44/RA15, 68 RP2/DMLN/RTCC/CN53/RD8, 69 RP4/DPLN/CN54/RD9, 70 RP3/PMCS2/CN55/RD10, 71 RP12/PMCS1/CN56/RD11, 72 RP11/DMH/CN49/INT0/RD0, 73 SOSCI/C3IND/CN1/RC13, 74 RPI37/SOSCO/C3INC/T1CK/CN0/RC14, 75 Vss, 76 RP24/VCPCON/CN50/RD1, 77 DPH/RP23/CN51/RD2, 78 RP22/PMBE/CN52/RD3, 79 RPI42/CN57/RD1, 80 CN19/RD13, 81 PMWR/RP25/CN13/RD4, 82 PMRD/RP20/CN14/RD5, 83 C3INB/CN15/RD6, 84 C3INA/CN16/RD7, 85 Vcap/VddCore, 86 ENVREG, 87 VbussT/Vcmpst1/CN68/RF0, 88 Vcmpst2/CN69/RF1, 89 CN78/RG1, 90 CN77/RG0, 91 CN39/RA6, 92 CN40/RA7, 93 PMD0/CN58/RE0, 94 PMD1/CN59/RE1, 95 CN81/RG14, 96 CN79/RG12, 97 CN80/RG13, 98 PMD2/CN60/RE2, 99 PMD3/CN61/RE3, 100 PMD4/CN62/RE4
text: PIC24FJxxxGB110

## PIC33FJ256GP710
designator IC?
Value: DIP100
footprint DIP100_2M (Footprint not found)
footprint TQFP-100-12X12 (Shrink QFP, 100-Leads, Body 12x12mm, Pitch 0.4mm, IPC High Density)
footprint TQFP-100-14x14 (Thin QFP, 100-Leads, Body 14x14mm, Pitch 0.5mm, IPC Low Density)
pins: 1 RG15, 2 VDD, 3 AN29/RE5, 4 AN30/RE6, 5 AN31/RE7, 6 AN16/T2CK/T7CK/RC1, 7 AN17/T3CK/T6CK/RC2, 8 AN18/T4CK/T9CK/RC3, 9 AN19/T5CK/T8CK/RC4, 10 SCK2/CN8/RG6, 11 SDI2/CN9/RG7, 12 SDO2/CN10/RG8, 13 ~{MCLR}, 14 SS2/CN11/RG9, 15 VSS, 16 VDD, 17 TMS/RA0, 18 AN20/INT1/RA12, 19 AN21/INT2/RA13, 20 AN5/CN7/RB5, 21 AN4/CN6/RB4, 22 AN3/CN5/RB3, 23 AN2/SS1/CN4/RB2, 24 PGC3/EMUC3/AN1/CN3/RB1, 25 PGD3/EMUD3/AN0/CN2/RB0, 26 PGC1/EMUC1/AN6/OCFA/RB6, 27 PGD1/EMUD1/AN7/RB7, 28 VREF-/RA9, 29 VREF+/RA10, 30 AVDD, 31 AVSS, 32 AN8/RB8, 33 AN9/RB9, 34 AN10/RB10, 35 AN11/RB11, 36 VSS, 37 VDD, 38 TCK/RA1, 39 ~{U2RTS}/RF13, 40 ~{U2CTS}/RF12, 41 AN12/RB12, 42 AN12/RB12, 43 AN14/RB14, 44 AN15/OCFB/CN12/RB15, 45 VSS, 46 VDD, 47 IC7/~{U1CTS}/CN20/RD14, 48 IC8/~{U1RTS}/CN21/RD15, 49 U2RX/CN17/RF4, 50 U2TX/CN18/RF5, 51 U1TX/RF3, 52 U1RX/RF2, 53 SDO1/RF8, 54 SDI1/RF7, 55 SCK1/INT0/RF6, 56 SDA1/RG3, 57 SCL1/RG2, 58 SCL2/RA2, 59 SDA2/RA3, 60 TDI/RA4, 61 TDO/RA5, 62 VDD, 63 OSC1/CLKIN/RC12, 64 OSC2/CLKO/RC15, 65 VSS, 66 INT3/RA14, 67 INT4/RA15, 68 IC1/RD8, 69 IC2/RD9, 70 IC3/RD10, 71 IC4/RD11, 72 OC1/RD0, 73 PGD2/EMUD2/SOSCI/CN1/RC13, 74 PGC2/EMUC2/SOSCO/T1CK/CN0/RC14, 75 VSS, 76 OC2/RD1, 77 OC3/RD2, 78 OC4/RD3, 79 IC5/RD12, 80 IC6/CN19/RD13, 81 OC5/CN13/RD4, 82 OC6/CN14/RD5, 83 OC7/CN15/RD6, 84 OC8/CN16/RD7, 85 VDDCORE, 86 VDD, 87 C1RX/RF0, 88 C1TX/RF1, 89 C2TX/RG1, 90 C2RX/RG0, 91 AN22/CN22/RA6, 92 AN23/CN23/RA7, 93 AN24/RE0, 94 AN25/RE1, 95 CSCK/RG14, 96 CSDI/RG12, 97 CSDO/RG13, 98 AN26/RE2, 99 AN27/RE3, 100 AN28/RE4
text: dsPIC33FJxxxGP710

## PIN 3V
designator BT?
Battery 3VDC; Value: PIN 3V
footprint PIN3V (Socket PIN 3V)
footprint PIN3V-S (Socket PIN 3V Small)
footprint PIN3V-D (Socket PIN 3V-Dung)
pins: 1 +3V, 2 GND
text: +; -

## PIR203S
designator PIR?, comment PIR_D203B
PIR_D203B_GSD; Creat by: VanDungEvn@Gmail.com; Value: PIR_D203B
footprint QTO-5 (TO-5)
pins: 1 D, 2 S, 3 G

## PL2303
designator IC?
USB - RS232 Converter; Value: PL2303
footprint SO-G28/C6.8 (Footprint not found)
pins: 1 TXD, 2 DTR_N hidden, 3 RTS_N hidden, 4 VDD_232 hidden to VCC, 5 RXD, 6 RI_N hidden to GND, 7 GND hidden to GND, 8 VDD hidden to VCC, 9 DSR_N hidden to GND, 10 DCD_N hidden to GND, 11 CTS_N hidden to VCC, 12 SHTD_N hidden, 13 EE_CLK hidden, 14 EE_DATA, 15 DP, 16 DM, 17 VDD_3V3, 18 GND_3V3 hidden to GND, 19 RESET hidden to VCC, 20 VDD hidden to VCC, 21 GND hidden to GND, 22 TRI_MODE, 23 LD_MODE, 24 VDD_PLL hidden to VCC, 25 GND_PLL hidden to GND, 26 PLL_TEST hidden to GND, 27 OSC1, 28 OSC2

## PL2303HX
designator IC?
USB - RS232 Converter; Value: PL2303
footprint SO-G28/C6.8 (Footprint not found)
pins: 1 TXD, 2 DTR_N, 3 RTS_N, 4 VDD_325, 5 RXD, 6 RI_N, 7 GND, 8 NC, 9 DSR_N, 10 DCD_N, 11 CTS_N, 12 SHTD_N, 13 EE_CLK, 14 EE_DATA, 15 DP, 16 DM, 17 VDD_3V3, 18 GND, 19 NC, 20 VDD, 21 GND, 22 GP0, 23 GP1, 24 NC, 25 GND_A, 26 PLL_TEST, 27 OSC1, 28 OSC2

## PLCC-44C
designator IC?
DIP PACKET PLCC44
footprint PLCC-44C (QPC-44C)
pins: 1, 2, 3, 4, 5, 6, 7, 8, 9, 10, 11, 12, 13, 14, 15, 16, 17, 18, 19, 20, 21, 22, 23, 24, 25, 26, 27, 28, 29, 30, 31, 32, 33, 34, 35, 36, 37, 38, 39, 40, 41, 42, 43, 44
text: PLCC44

## PNP_BCE
designator Q?, comment A671
P 1W, EBC; Value: TIP42
footprint QTO-220 (TO-220)
pins: 1 B, 2 C, 3 E

## PNP_EBC
designator Q?, comment C9015
P 600mW, EBC; Value: C9015
footprint QTO-92 (TO-92)
pins: 1 E, 2 B, 3 C

## PNP_ECB
designator Q?, comment A1013
P 600mW, ECB; Value: A1015
footprint QTO-92 (TO-92)
pins: 1 E, 2 C, 3 B

## PT2248
designator IC?
Remote Control Tranmitter; Description: Desinged by VanDungEvn; Value: PT2248
footprint DIP16/W0.3 (16 PIN, W 300mil)
pins: 1 VSS, 2 XT1, 3 XT2, 4 K1, 5 K2, 6 K3, 7 K4, 8 K5, 9 K6, 10 T1, 11 T2, 12 T3, 13 CODE, 14 TEST, 15 TX, 16 VCC

## PT2249
designator IC?
Remote Control Receiver; Description: Desinged by VanDungEvn; Value: PT2249
footprint DIP16/W0.3 (16 PIN, W 300mil)
pins: 1 VSS, 2 RX-IN, 3 HP1, 4 HP2, 5 HP3, 6 HP4, 7 HP5, 8 SP5, 9 SP4, 10 SP3, 11 SP2, 12 SP1, 13 CODE2, 14 CODE3, 15 OSC, 16 VCC

## PT2262
designator IC?
Remote Control Encoder
footprint DIP18/W0.3 (18 PIN, W 300mil, Pin to pin 100mil)
pins: 1 A1, 2 A2, 3 A3, 4 A4, 5 A5, 6 A6, 7 A7/D5, 8 A8/D4, 9 GND, 10 A9/D3, 11 A10/D2, 12 A11/D1, 13 A12/D0, 14 ~{TE}, 15 OSC2, 16 OSC1, 17 DOUT, 18 VCC

## PT2272
designator IC?
Remote Control Decoder
footprint DIP18/W0.3 (18 PIN, W 300mil, Pin to pin 100mil)
pins: 1 A1, 2 A2, 3 A3, 4 A4, 5 A5, 6 A6, 7 A7, 8 A8, 9 GND, 10 A9/D3, 11 A10/D2, 12 A11/D1, 13 A12/D0, 14 DIN, 15 OSC2, 16 OSC1, 17 VT, 18 VCC

## R
designator R?, comment 1k
Resistor 1/4W; Value: R1/4W - 1K
footprint RM-0805 (Resistor SMD 80x50mil)
footprint R1/8W (R 1/8W, 2 pin, 300mil)
footprint R1/4W (R 1/4W, 2 Pin, 350mil)
footprint R1/4WD (R 1/4W, 2 Pin, 150mil)
footprint RM-1206 (Resistor SMD 120x60mil)
pins: 1, 2

## R1/4W
designator R?, comment 1k
Resistor 1/4W; Value: R1/4W - 1K
footprint R1/4W (R 1/4W, 2 Pin, 350mil)
footprint R1/8W (R 1/8W, 2 pin, 300mil)
footprint R1/2W (R 1/2W, 2 pin, 400mil)
footprint R1/4WD (R 1/4W, 2 Pin, 150mil)
pins: 1, 2

## R1W
designator R?, comment 100
Resistor 1W; Value: R1W - 100
footprint R1W (R 1W, 2 pin, 500mil)
footprint R1WD (R 1W, 2 pin, 500mil)
pins: 1, 2

## R2W
designator R?, comment 47/2W
Resistor 2W; Value: R2W - 47
footprint R2W (R2W, 2 pin, 700mil)
footprint R2WD (R2W, 2 pin, 700mil)
pins: 1, 2

## R5W
designator R?, comment R5W - 0,47
Resistor 5W; Value: R5W - 0,47R
footprint R5W (R5W , 2 pin, 950mil)
footprint R5WD (R5W , 2 pin, 300 x 600 mil)
footprint R5W2 (R5W , 2 pin, 5 x 15mm)
pins: 1 "R5W", 2 "R5W"

## RCV420
designator IC?
Precision 4mA to 20mA  CURRENT LOOP RECEIVER; Designed by: VanDungEvn; Value: RCV420
footprint DIP16/W0.3 (16 PIN, W 300mil, Pin to pin 100mil)
pins: 1 -in, 2 CT, 3 +in, 4 V-, 5 Ref-com, 7 Ref-NR, 8 Ref-Trim, 10 Ref-fa, 11 Ref-out, 12 Ref-in, 13 Rcv-Com, 14 Rcv-Out, 15 Rcv-fa, 16 V+

## REF02
designator U?
+5V Precision  VOLTAGE REFERENCE
footprint SO-8N (SOP, 8-Leads, Body 5.3x5.3mm, Pitch 1.27mm, IPC Medium Density)
footprint DIP8/W0.3 (8 PIN, W 300mil, Pin to pin 100mil)
pins: 1 NC, 2 Vin, 3 Temp, 4 GND, 5 Trim, 6 Vout, 7 NC, 8 NC

## REF32xx
designator U?
SERIES VOLTAGE REFERENCE; Name: REF3212,REF3220,REF3225,REF3233,REF3240
footprint SOT23-6
pins: 1 GND_F, 2 GND_S, 3 ENABLE, 4 IN, 5 OUT-S, 6 OUT-F

## Relay 1
designator RL?, comment Relay
Relay SPDT 5 Pin; Value: Relay SPDT, 10A, 12V
footprint RL_SPDT_10A (Relay SPDT, 5 pin, 10A,W 650mil, L 800mil, H 800mil)
footprint RL_JQX-30F(T91) (Relay SPDT, 5 pin, 30A,W 32.1mm, L 26.9mil, H 28.0mil)
pins: 1, 2, 3, 4, 5

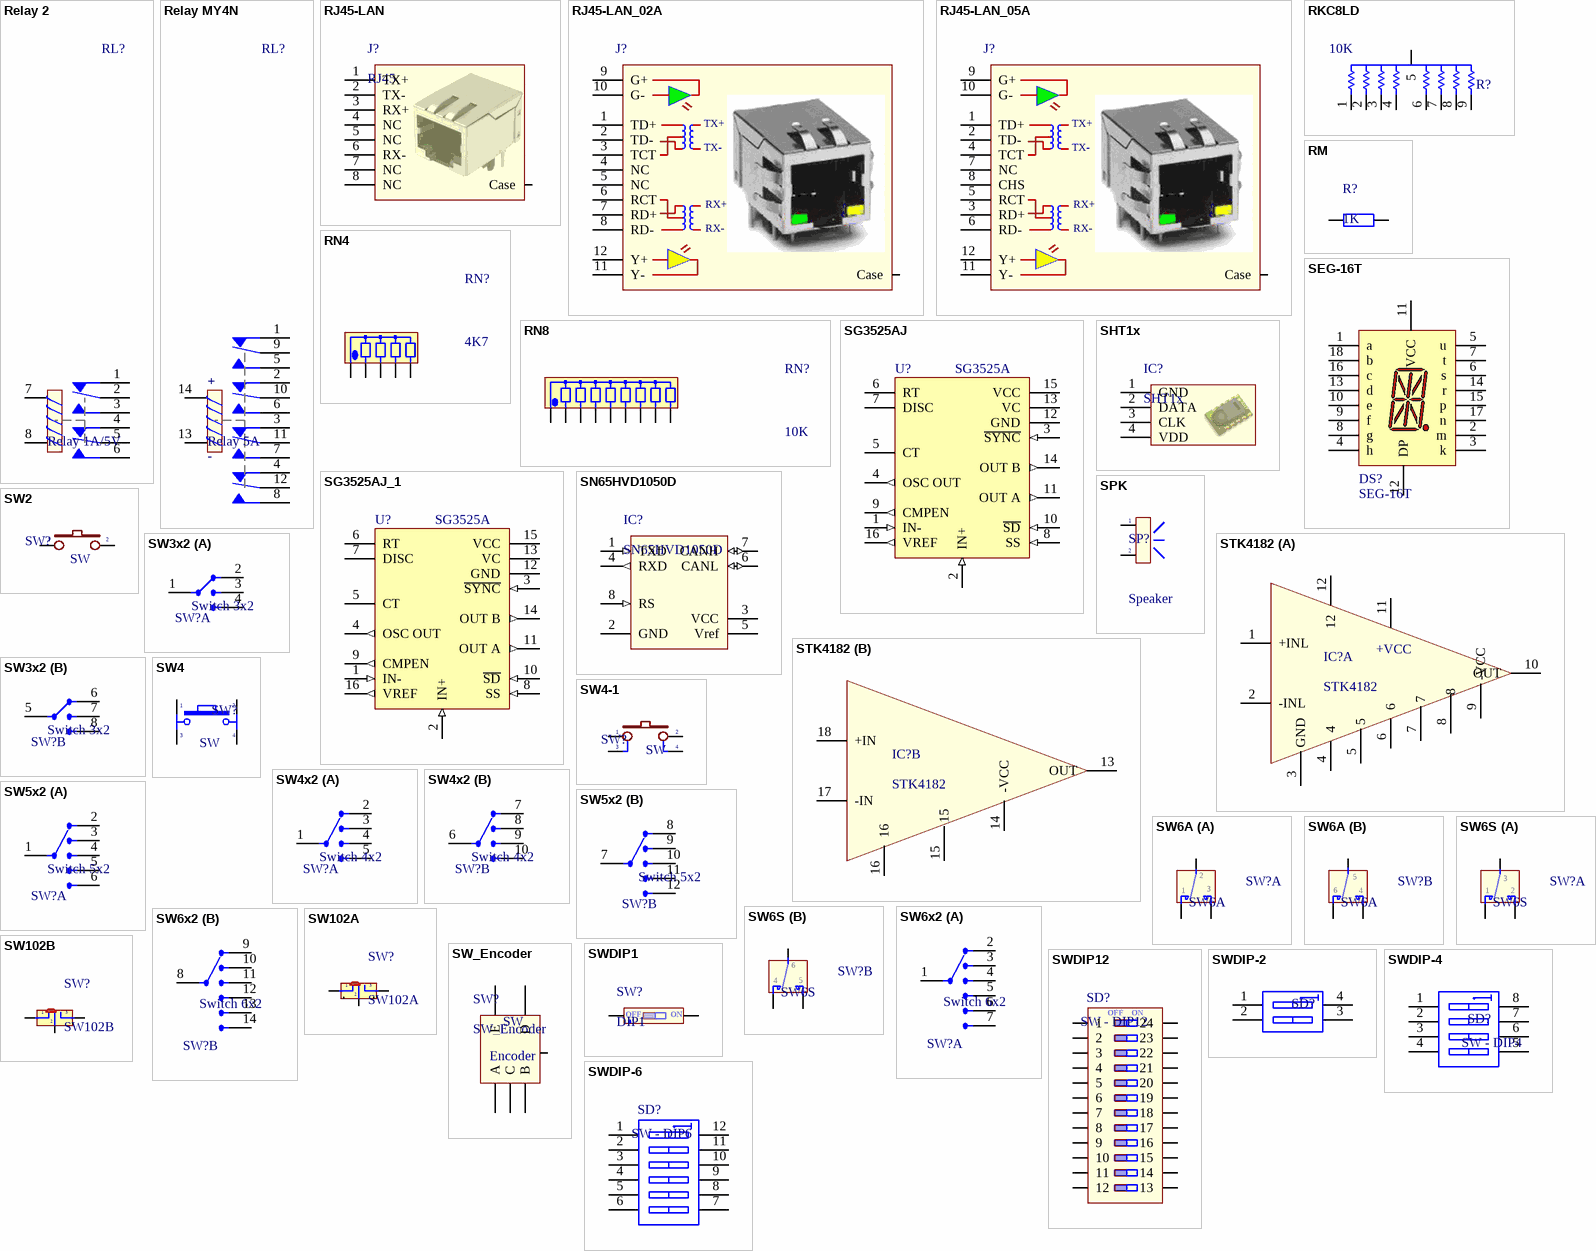
[diagram p16: symbols Relay 2 to SWDIP-6]

## Relay 2
designator RL?, comment Relay 1A/5V
Relay DPDT 8 Pin; Discription: Relay DPDT 5V, 12V - 1A - 5A; Value: Relay - 5V - 1A
footprint RL_DPDT_5A (Reley DPDT, 8 pin, 5A, W500mil, L1100mil,H 950mil)
footprint RL_DPDT_1A (Reley DPDT, 8 pin, 1A, W400mil, L800mil,H 300mil)
pins: 1, 2, 3, 4, 5, 6, 7, 8

## Relay MY4N
designator RL?, comment Relay 5A
Relay 4DPDT 13 Pin; Discription: Relay DPDT 5V, 12V - 1A - 5A; Value: Relay - 5V - 1A
footprint Relay MY4 (Footprint not found)
pins: 1, 2, 3, 4, 5, 6, 7, 8, 9, 10, 11, 12, 13, 14
text: +; -

## RJ45-LAN
designator J?, comment RJ45
Single RJ45 Connector Non LED
footprint RJ45 (Single Port RJ45 Connector with Intergrated Magetic (LAN))
pins: 0 Case, 1 TX+, 2 TX-, 3 RX+, 4 NC, 5 NC, 6 RX-, 7 NC, 8 NC

## RJ45-LAN_02A
designator J?, comment HR911102A  (value not drawn)
HR911102A - Single RJ45 Connector LED
footprint RJ45-LED (Single Port RJ45 Connector with Intergrated Magetic (LAN) - Tranformer & LED)
pins: 0 Case, 1 TD+, 2 TD-, 3 TCT, 4 NC, 5 NC, 6 RCT, 7 RD+, 8 RD-, 9 G+, 10 G-, 11 Y-, 12 Y+
text: TX+; TX-; RX+; RX-

## RJ45-LAN_05A
designator J?, comment HR911105A  (value not drawn)
HR911105A Single RJ45 Connector LED
footprint RJ45-LED (Single Port RJ45 Connector with Intergrated Magetic (LAN) - Tranformer & LED)
pins: 0 Case, 1 TD+, 2 TD-, 3 RD+, 4 TCT, 5 RCT, 6 RD-, 7 NC, 8 CHS, 9 G+, 10 G-, 11 Y-, 12 Y+
text: TX+; TX-; RX+; RX-

## RKC8LD
designator R?, comment 10K
Resistor Pack 4x2; Value: 10K
footprint RN8 (R SIP8, 9 Pin)
pins: 1, 2, 3, 4, 5, 6, 7, 8, 9

## RM
designator R?, comment 1K
Resistor SMD; Value: 1K
footprint RM-1206 (Resistor SMD 120x60mil)
footprint RM-0805 (Resistor SMD 80x50mil)
pins: 1, 2

## RN4
designator RN?, comment 4K7
Resistor 4 (thanh); Value: Tro thanh 4K7
footprint RN4 (R SIP4, 5 Pin)
pins: 1, 2, 3, 4, 5

## RN8
designator RN?, comment 10K
Resistor 8 (Thanh); Value: Tro thanh 10K
footprint RN8 (R SIP8, 9 Pin)
pins: 1, 2, 3, 4, 5, 6, 7, 8, 9

## SEG-16T
designator DS?
13.7 mm Gray Surface As AlInGaP Red Alphanumeric Display: 2-Character, CC; Published: 8-Jun-2000; LatestRevisionDate: 17-Dec-2003; LatestRevisionNote: Schematic revised, PCB Footprint replaced.; DatasheetVersion: 20-Nov-2001; PackageVersion: 20-Nov-2001; PackageReference: HDSP-A2; Publisher: Altium Limited; Colour: As AlInGaP Red; ComponentLink1Description: Manufacturer Link; ComponentLink1URL: http://www.agilent.com/
simulation model HDSP_A27C (SUBCKT)
footprint 7SEG_16T (DIP 10 Leads; Body 24 x 34 mm; Pitch 0.5 mm)
pins: 1 a "Digits (1&2) a Anode", 2 m "Digits (1&2) m Anode", 3 k "Digits (1&2) k Anode", 4 h "Digits (1&2) h Anode", 5 u "Digit 1 Common Cathode", 6 s "Digits (1&2) j Anode", 7 t "No Connect", 8 g "Digits (1&2) g Anode", 9 f "Digits (1&2) f Anode", 10 e "Digits (1&2) e Anode", 11 VCC (power) "Digit 2 Common Cathode", 12 DP "Digit 1&2 DP Anode", 13 d "Digits (1&2) d Anode", 14 r "Digits (1&2) l Anode", 15 p "Digits (1&2) p Anode", 16 c "Digits (1&2) c Anode", 17 n "Digits (1&2) n Anode", 18 b "Digits (1&2) b Anode"

## SG3525AJ
designator U?, comment SG3525A
Pulse Width Modulator Control Circuit; Published: 17-Jul-2002; LatestRevisionDate: 06-Jun-2005; LatestRevisionNote: Stylized 3D Model Added.; DatasheetVersion: 1988; PackageReference: 620-10; Publisher: Altium Limited; PackageDescription: DIP; 16 Leads; Row Spacing 7.62 mm; Pitch 2.54 mm; ComponentLink1Description: Manufacturer Link; ComponentLink1URL: http://www.onsemi.com/site/products/taxonomy/0,4438,503,00.html; Value: SG3525A
footprint DIP16/W0.3 (16 PIN, W 300mil, Pin to pin 100mil)
pins: 1 IN- (in), 2 IN+ (in), 3 ~{SYNC} (in), 4 OSC OUT (out), 5 CT, 6 RT, 7 DISC (oc), 8 SS (in), 9 CMPEN (out), 10 ~{SD} (in), 11 OUT A (out), 12 GND (power), 13 VC (power), 14 OUT B (out), 15 VCC (power), 16 VREF (out)

## SG3525AJ_1
designator U?, comment SG3525A
Pulse Width Modulator Control Circuit; Published: 17-Jul-2002; LatestRevisionDate: 06-Jun-2005; LatestRevisionNote: Stylized 3D Model Added.; DatasheetVersion: 1988; PackageReference: 620-10; Publisher: Altium Limited; PackageDescription: DIP; 16 Leads; Row Spacing 7.62 mm; Pitch 2.54 mm; ComponentLink1Description: Manufacturer Link; ComponentLink1URL: http://www.onsemi.com/site/products/taxonomy/0,4438,503,00.html; Value: SG3525A
footprint DIP-16 (DIP; 16 Leads; Row Spacing 7.62 mm; Pitch 2.54 mm)
3D model 620-10 (DIP; 16 Leads; Row Spacing 7.62 mm; Pitch 2.54 mm)
pins: 1 IN- (in), 2 IN+ (in), 3 ~{SYNC} (in), 4 OSC OUT (out), 5 CT, 6 RT, 7 DISC (oc), 8 SS (in), 9 CMPEN (out), 10 ~{SD} (in), 11 OUT A (out), 12 GND (power), 13 VC (power), 14 OUT B (out), 15 VCC (power), 16 VREF (out)

## SHT1x
designator IC?
Humidity and Temperature Sensor
footprint SO-8_SHT1x (SOP, 8-Leads, Body 5.3x5.3mm, Pitch 1.27mm, IPC Medium Density)
pins: 1 GND, 2 DATA, 3 CLK, 4 VDD, 8 NC

## SN65HVD1050D
designator IC?
CAN DRIVER
footprint DIP8/W0.3 (8 PIN, W 300mil, Pin to pin 100mil)
footprint SO-8N (SOP, 8-Leads, Body 5.3x5.3mm, Pitch 1.27mm, IPC Medium Density)
pins: 1 TXD (in), 2 GND, 3 VCC, 4 RXD (out), 5 Vref, 6 CANL (io), 7 CANH (io), 8 RS (in)

## SPK
designator SP?, comment Speaker
Speaker Chip; Value: Speaker Chip
footprint SPK (Speaker Chip)
footprint SP1 (Speaker Telphone on Broad)
pins: 1, 2

## STK4182
designator IC?
AF Power Amplifier 2x10W
footprint STK4182 (Pin to pin 100mil, 18 pin)
part A pins: 1 +INL, 2 -INL, 3 GND, 4, 5, 6, 7, 8, 9 -VCC, 10 OUT, 11 +VCC, 12
part B pins: 13 OUT, 14 -VCC, 15, 16, 17 -IN, 18 +IN

## SW2
designator SW?, comment SW
Switch button 2 pin; Value: SW chip 2 pin
footprint SW2 (SW button 2pin, 250x 250 mil)
footprint SW4_SMD (SW button 4pin, 250 x250 mil)
pins: 1, 2

## SW3x2
designator SW?, comment Switch 3x2
Value: Switch 4x2
footprint SW3X2 (Switch 3x2 - pin to pin 80)
part A pins: 1 Com, 2 I/O1, 3 I/O2, 4 I/O3
part B pins: 5 I/O10, 6 I/O9, 7 Com2, 8 I/O6

## SW4
designator SW?, comment SW
Switch button 4 pin; Value: Button chip 4 pin
footprint SW4 (SW button 4pin, 250 x250 mil)
footprint SW4B (SW button 4pin, 450 x 450 mil)
footprint SW4_SMD (SW button 4pin, 250 x250 mil)
pins: 1, 2, 3, 4

## SW4-1
designator SW?, comment SW
Switch button 4 pin; Value: SW chip 4 pin
footprint SW4 (SW button 4pin, 250 x250 mil)
footprint SW4B (SW button 4pin, 450 x 450 mil)
footprint SW4_SMD (SW button 4pin, 250 x250 mil)
pins: 1, 2, 3, 4

## SW4x2
designator SW?, comment Switch 4x2
Value: Switch 4x2
footprint SW4X2 (Switch 4x2)
part A pins: 1 Com, 2 I/O1, 3 I/O2, 4 I/O3, 5 I/O4
part B pins: 6 I/O9, 7 Com2, 8 I/O6, 9 I/O7, 10 I/O8

## SW5x2
designator SW?, comment Switch 5x2
Value: Switch 5x2
footprint SW5X2 (Switch 5x2)
part A pins: 1 Com, 2 I/O1, 3 I/O2, 4 I/O3, 5 I/O4, 6 I/O5
part B pins: 7 Com2, 8 I/O6, 9 I/O7, 10 I/O8, 11 I/O9, 12 I/O10

## SW6A
designator SW?
SW-DTDP - 6 Pin; Value: SW6
footprint SW6 (SW DTDP - 6Pin 260x300x300 mil)
part A pins: 1, 2, 3
part B pins: 4, 5, 6

## SW6S
designator SW?
SW-DTDP - 6 Pin; Value: SW6
footprint SW6 (SW DTDP - 6Pin 260x300x300 mil)
part A pins: 1, 2, 3
part B pins: 4, 5, 6

## SW6x2
designator SW?, comment Switch 6x2
Value: Switch 6x2
footprint SW6X2 (Switch 6x2)
part A pins: 1 Com, 2 I/O1, 3 I/O2, 4 I/O3, 5 I/O4, 6 I/O5, 7 I/O6
part B pins: 8 I/O6, 9 I/O7, 10 I/O8, 11 I/O9, 12 I/O10, 13 I/O11, 14 I/O12

## SW102A
designator SW?
Switch 102 on Broad; Value: Switch 102 On Board
footprint SW102 (Switch 102 On Board nho)
footprint SW102T (Switch 102 On Board To)
pins: 1, 2, 3, 4, 5

## SW102B
designator SW?
Switch 102 on Broad; Value: Switch 102 On Board
footprint SW-GAT
footprint SW102T (Switch 102 On Board To)
pins: 1, 2, 3

## SW_Encoder
designator SW?
footprint SW-ENCODER
pins: 0, 1 A, 2 C, 3 B, 4 D, 5 E
text: SW; Encoder

## SWDIP1
designator SW?, comment DIP1
Switch 1 bit
footprint DIP2/W0.3K (4 PIN, W 400mil , L 450mil,Pin to pin 100mil)
pins: 1, 2
text: OFF; ON

## SWDIP12
designator SD?, comment SW - DIP12
DIP Switch, 12 Position, SPST; Value: SW - DIP12
footprint DIP24/W0.3 (DIP24/W.300, Pin to pin 100mil)
pins: 1, 2, 3, 4, 5, 6, 7, 8, 9, 10, 11, 12, 13, 14, 15, 16, 17, 18, 19, 20, 21, 22, 23, 24
text: OFF; ON

## SWDIP-2
designator SD?, comment SW - DIP2  (value not drawn)
DIP Switch, 2 Position, SPST; Value: SW - DIP2
footprint DIP4/W0.3K (4 PIN, W 400mil , L 450mil,Pin to pin 100mil)
pins: 1 A1, 2 A2, 3 A3, 4 A4

## SWDIP-4
designator SD?, comment SW - DIP4
DIP Switch, 4 Position, SPST; Value: SW - DIP4
footprint DIP8/W0.3K (8 PIN, W 400mil , L 450mil, Pin to pin 100mil For Switch)
pins: 1 A1, 2 A2, 3 A3, 4 A4, 5 B4, 6 B3, 7 B2, 8 B1

## SWDIP-6
designator SD?, comment SW - DIP6
DIP Switch, 6 Position, SPST; Value: SW - DIP8
footprint DIP12/W0.3K (Footprint not found)
pins: 1 A1, 2 A2, 3 A3, 4 A4, 5 A5, 6 A6, 7 A7, 8 A8, 9 B8, 10 B7, 11 B6, 12 B5

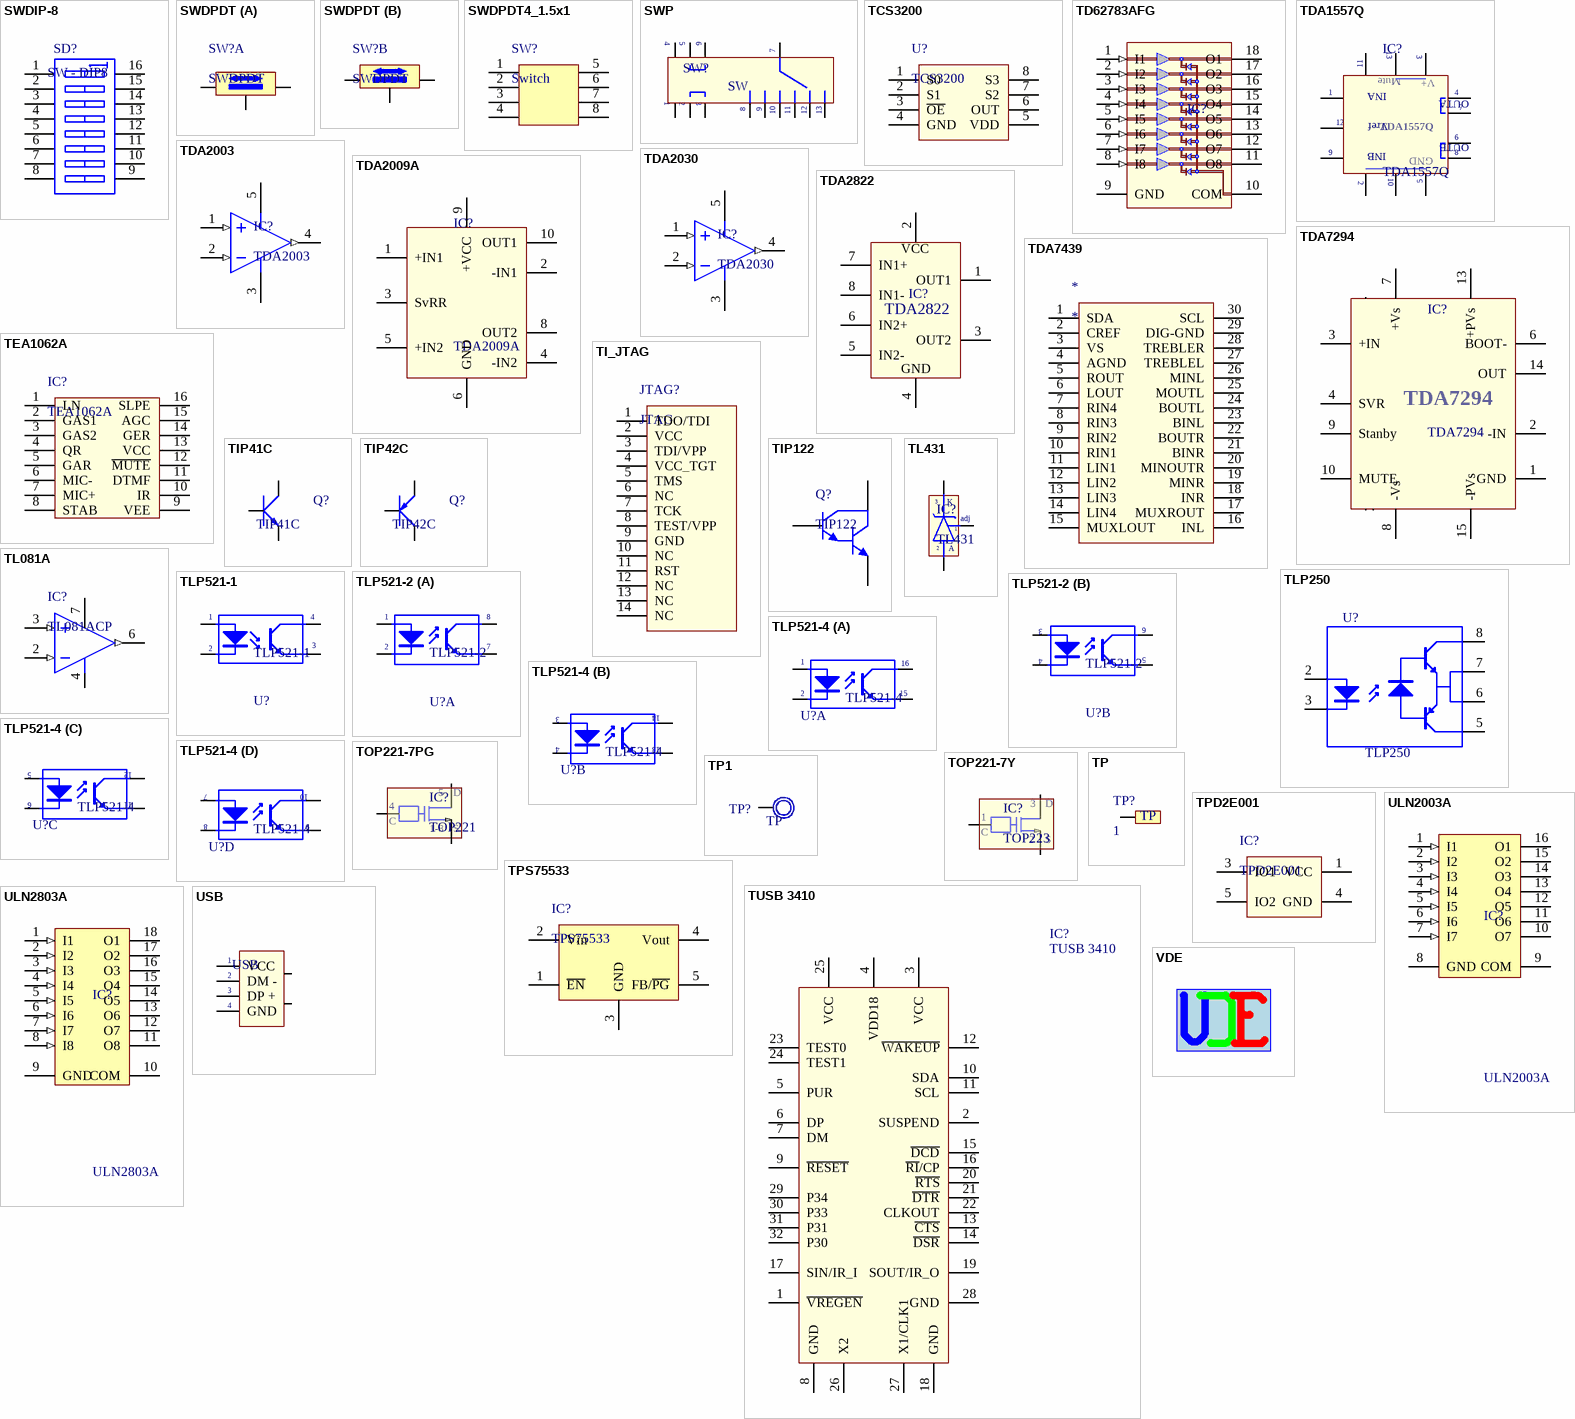
[diagram p17: symbols SWDIP-8 to VDE]

## SWDIP-8
designator SD?, comment SW - DIP8
DIP Switch, 8 Position, SPST; Value: SW - DIP8
footprint DIP16/W0.3K (16 PIN, W 300mil, Pin to pin 100mil For Switch)
simulation model dpsw8 (Spice Subcircuit)
pins: 1 A1, 2 A2, 3 A3, 4 A4, 5 A5, 6 A6, 7 A7, 8 A8, 9 B8, 10 B7, 11 B6, 12 B5, 13 B4, 14 B3, 15 B2, 16 B1

## SWDPDT
designator SW?
Switch SPDT; Creat by: VanDungEvn@Gmail.com
footprint SWDPDT_1.5x1 (Switch DPDT, Pin to Pin 150mil, Row to Row 100mil)
footprint SWDPDT_1.5x2 (Switch DPDT, Pin to Pin 150mil, Row to Row 200mil)
part A pins: 1, 2, 3
part B pins: 4, 5, 6

## SWDPDT4_1.5x1
designator SW?, comment Switch
Switch 1-3 x2
footprint SWDPDT4_1.5x1 (Switch 3 DPDT, Pin to Pin 150mil, Row to Row 100mil)
pins: 1, 2, 3, 4, 5, 6, 7, 8

## SWP
designator SW?, comment SW
Switch Power; Value: SW Power
footprint SWP (SW Power)
pins: 1, 2, 3, 4, 5, 6, 7, 8, 9, 10, 11, 12, 13

## TCS3200
designator U?
PROGRAMMABLE  COLOR LIGHT-TO-FREQUENCY CONVERTER
footprint SO-8N (SOP, 8-Leads, Body 5.3x5.3mm, Pitch 1.27mm, IPC Medium Density)
pins: 1 S0, 2 S1, 3 ~{OE}, 4 GND, 5 VDD, 6 OUT, 7 S2, 8 S3

## TD62783AFG
designator IC?  (value not drawn)
High-Voltage, High-Current Darlington Array; Value: TD62783AFG
footprint DIP18/W0.3 (18 PIN, W 300mil, Pin to pin 100mil)
3D model A18 (PCB3D Model)
pins: 1 I1 (in), 2 I2 (in), 3 I3 (in), 4 I4 (in), 5 I5 (in), 6 I6 (in), 7 I7 (in), 8 I8 (in), 9 GND (power), 10 COM, 11 O8 (oc), 12 O7 (oc), 13 O6 (oc), 14 O5 (oc), 15 O4 (oc), 16 O3 (oc), 17 O2 (oc), 18 O1 (oc)

## TDA1557Q
designator IC?
2 x 22 W BTL stereo car radio power amplifier with speaker protection; Value: TDA1557Q
footprint DIP13/S1 (13 Pin so le hai hang cach nhau 200mil., Pin to pin 100mil)
pins: 1 IN1, 2 GND, 3 V+, 4 OUT1A, 5 GND, 6 OUT1B, 7 OUT2A, 8 OUT2B, 9 IN2, 10 GND, 11 Mute, 12 Vref, 13 V+
text: INA; OUTA; OUTB; INB

## TDA2003
designator IC?
10W CAR RADIO AUDIO AMPLIFIER; Value: TDA2003
footprint DIP5SL1
pins: 1 IN+ (in), 2 IN- (in), 3 V- (power), 4 OUT (out), 5 V+ (power)

## TDA2009A
designator IC?
2 x 10 W BTL stereo car radio power amplifier with speaker protection; Value: TDA1557Q
footprint DIP11/S1 (11 Pin so le hai hang cach nhau 200mil., Pin to pin 100mil)
pins: 1 +IN1, 2 -IN1, 3 SvRR, 4 -IN2, 5 +IN2, 6 GND, 8 OUT2, 9 +VCC, 10 OUT1

## TDA2030
designator IC?
14W Hi-Fi AUDIO AMPLIFIER; Value: TDA2030
footprint DIP5SL1
pins: 1 IN+ (in), 2 IN- (in), 3 V- (power), 4 OUT (out), 5 V+ (power)

## TDA2822
designator IC?  (value not drawn)
Dual Low Voltage Power Amplifire
footprint DIP8/W0.3 (8 PIN, W 300mil, Pin to pin 100mil)
footprint SO-8N (SOP, 8-Leads, Body 5.3x5.3mm, Pitch 1.27mm, IPC Medium Density)
pins: 1 OUT1, 2 VCC, 3 OUT2, 4 GND "VCC", 5 IN2- "VCC", 6 IN2+ "VCC", 7 IN1+ "VCC", 8 IN1- "VCC"

## TDA7294
designator IC?
100V - 100W DMOS AUDIO AMPLIFIER WITH MUTE/ST-BY; Value: TDA1557Q
footprint DIP15SL2 (TO, Thru-Hole, Vertical, Heatsink Mounted; 15 Bent Staggered Leads; Pitch 1.27 mm)
pins: 1 GND, 2 -IN, 3 +IN, 4 SVR, 5 NC, 6 BOOT-, 7 +Vs, 8 -Vs, 9 Stanby, 10 MUTE, 11 NC, 12 NC, 13 +PVs, 14 OUT, 15 -PVs

## TDA7439
designator *
footprint DIP30/W0.4
pins: 1 SDA, 2 CREF, 3 VS, 4 AGND, 5 ROUT, 6 LOUT, 7 RIN4, 8 RIN3, 9 RIN2, 10 RIN1, 11 LIN1, 12 LIN2, 13 LIN3, 14 LIN4, 15 MUXLOUT, 16 INL, 17 MUXROUT, 18 INR, 19 MINR, 20 MINOUTR, 21 BINR, 22 BOUTR, 23 BINL, 24 BOUTL, 25 MOUTL, 26 MINL, 27 TREBLEL, 28 TREBLER, 29 DIG-GND, 30 SCL

## TEA1062A
designator IC?
Low voltage transmission circuits with dialler interface; Creat by: VanDungEvn@Gmail.com
footprint DIP16/W0.3 (16 PIN, W 300mil, Pin to pin 100mil)
pins: 1 LN, 2 GAS1, 3 GAS2, 4 QR, 5 GAR, 6 MIC-, 7 MIC+, 8 STAB, 9 VEE, 10 IR, 11 DTMF, 12 ~{MUTE}, 13 VCC, 14 GER, 15 AGC, 16 SLPE

## TI_JTAG
designator JTAG?, comment JTAG
TI - JTAG
footprint HED2X7 (Connector; Header; 8x2 Position)
pins: 1 TDO/TDI, 2 VCC, 3 TDI/VPP, 4 VCC_TGT, 5 TMS, 6 NC, 7 TCK, 8 TEST/VPP, 9 GND, 10 NC, 11 RST, 12 NC, 13 NC, 14 NC

## TIP41C
designator Q?
NPN 2W, BCE; Value: TIP41C
footprint QTO-220 (TO-220)
pins: 1 B, 2 C, 3 E

## TIP42C
designator Q?
PNP 2W, BCE; Value: TIP42C
footprint QTO-220 (TO-220)
pins: 1 B, 2 C, 3 E

## TIP122
designator Q?
Darlington Silicon Power NPN Transistor, 8 Amp, 100 Volts and 65 Watts
footprint QTO-220 (TO-220 - 1-2-3)
pins: 1 B, 2 C, 3 E

## TL081A
designator IC?, comment TL081ACP
Single OA
footprint DIP8/W0.3 (8 PIN, W 300mil, Pin to pin 100mil)
pins: 2 IN- (in), 3 IN+ (in), 4 -V, 6 OUT (out), 7 +V

## TL431
designator IC?
Programmable Shunt Regulator; Value: TL431
footprint qto-92 (TO-92)
pins: 1 adj, 2 A, 3 K

## TLP250
designator U?
IGBT/Power MOSFET Gate Drive Photo-IC; Value: TLP250
footprint DIP8/W0.3 (8 PIN, W 300mil, Pin to pin 100mil)
pins: 1 NC hidden, 2 ANOT, 3 KATOT, 4 NC hidden, 5 GND (power), 6 VO1, 7 VO2, 8 VCC (power)

## TLP521-1
designator U?
Single Opto; Value: TLP5211
footprint DIP4/W0.3 (Footprint not found)
pins: 1 A "Anode", 2 K "Cathode", 3 E "Emitter", 4 C "Collector"

## TLP521-2
designator U?
Dual Opto; Value: TLP521-2
footprint DIP8/W0.3 (8 PIN, W 300mil)
part A pins: 1 A "Anode", 2 K "Cathode", 7 E "Emitter", 8 C "Collector"
part B pins: 3 A "Anode", 4 K "Cathode", 5 E "Emitter", 6 C "Collector"

## TLP521-4
designator U?
Four Opto; Value: TLP521-4
footprint DIP16/W0.3 (16 PIN, W 300mil, Pin to pin 100mil)
part A pins: 1 A "Anode", 2 K "Cathode", 15 E "Emitter", 16 C "Collector"
part B pins: 3 A "Anode", 4 K "Cathode", 13 E "Emitter", 14 C "Collector"
part C pins: 5 A "Anode", 6 K "Cathode", 11 E "Emitter", 12 C "Collector"
part D pins: 7 A "Anode", 8 K "Cathode", 9 E "Emitter", 10 C "Collector"

## TOP221-7PG
designator IC?, comment TOP221
Family Three-terminal Off-line PWM Switch
footprint DIP8/W0.3 (8 PIN, W 300mil, Pin to pin 100mil)
footprint SO-8 (8-Pin Small Outline Integrated Circuit 1.27 mm Pitch, IPC Medium Density)
pins: 1 S, 2 S, 3 S, 4 C, 5 D, 6 S, 7 S, 8 S
text: 1-8

## TOP221-7Y
designator IC?, comment TOP223
Family Three-terminal Off-line PWM Switch; Designed by: VanDungEvn
footprint QTO-220 (TO-220 - 1-2-3)
pins: 1 C, 2 C, 3 C
text: D; S

## TP
designator TP?, comment 1
CONNECT 1
footprint TP (Footprint not found)
pins: TP1 0

## TP1
designator TP?, comment TP
Test Point; Value: Test Point
footprint TP1 (Test point)
footprint TP6 (Jac cap 6ly)
pins: 1

## TPD2E001
designator IC?
LOW-CAPACITANCE 2-CHANNEL ± 15-kV ESD-PROTECTION ARRAY FOR HIGH-SPEED DATA INTERFACES
footprint SO-5N
pins: 1 VCC, 3 IO1, 4 GND, 5 IO2

## TPS75533
designator IC?
5A - VOLTAGE DROP
footprint QTO-263 (SMD-5 pin, pin to pin 1.7mm)
footprint QTO-220-5 (TO-220 - 1-2-3)
pins: 1 ~{EN}, 2 Vin, 3 GND, 4 Vout, 5 FB/~{PG}

## TUSB 3410
designator IC?
USB to RS232 Converter; Value: TUSB 3410
footprint QFP7X7-G32/X.45N (QFP; 32 Leads; Body 7 x 7 mm; Pitch 0.8 mm)
pins: 1 ~{VREGEN}, 2 SUSPEND, 3 VCC, 4 VDD18, 5 PUR, 6 DP, 7 DM, 8 GND, 9 ~{RESET}, 10 SDA, 11 SCL, 12 ~{WAKEUP}, 13 ~{CTS}, 14 ~{DSR}, 15 ~{DCD}, 16 ~{RI}/CP, 17 SIN/IR_I, 18 GND, 19 SOUT/IR_O, 20 ~{RTS}, 21 ~{DTR}, 22 CLKOUT, 23 TEST0, 24 TEST1, 25 VCC, 26 X2, 27 X1/CLK1, 28 GND, 29 P34, 30 P33, 31 P31, 32 P30

## ULN2003A
designator IC?
High-Voltage, High-Current Darlington Array; LatestRevisionNote: Stylized 3D Model Added.; Publisher: Altium Limited; Value: ULN2003A
footprint DIP16/W0.3 (16 PIN, W 300mil)
3D model A18 (PCB3D Model)
footprint SO-G16/X.6 (Small Outline; 16 Leads; Body Width 5.3 mm; Pitch 1.27 mm)
pins: 1 I1 (in), 2 I2 (in), 3 I3 (in), 4 I4 (in), 5 I5 (in), 6 I6 (in), 7 I7 (in), 8 GND (power), 9 COM, 10 O7 (oc), 11 O6 (oc), 12 O5 (oc), 13 O4 (oc), 14 O3 (oc), 15 O2 (oc), 16 O1 (oc)

## ULN2803A
designator IC?
High-Voltage, High-Current Darlington Array; LatestRevisionNote: Stylized 3D Model Added.; Publisher: Altium Limited; Value: ULN2803A
footprint DIP18/W0.3 (18 PIN, W 300mil)
3D model A18 (PCB3D Model)
pins: 1 I1 (in), 2 I2 (in), 3 I3 (in), 4 I4 (in), 5 I5 (in), 6 I6 (in), 7 I7 (in), 8 I8 (in), 9 GND (power), 10 COM, 11 O8 (oc), 12 O7 (oc), 13 O6 (oc), 14 O5 (oc), 15 O4 (oc), 16 O3 (oc), 17 O2 (oc), 18 O1 (oc)

## USB
designator USB?
USB connector; Value: USB
footprint USB-B-MALE (USB B connector, 4pin, For Print)
footprint USB-A-MALE (USB A connector, 4pin, For USB sing)
footprint USB-A-FMALE (USB A connector, 4pin, For USB sing)
footprint USB-A-MALE-SMD (For USB SMD)
pins: 1 VCC, 2 DM -, 3 DP +, 4 GND, 5, 6

## VDE
designator VDE  (value not drawn)
VanDungEvn
footprint VDE (VDE - SM)

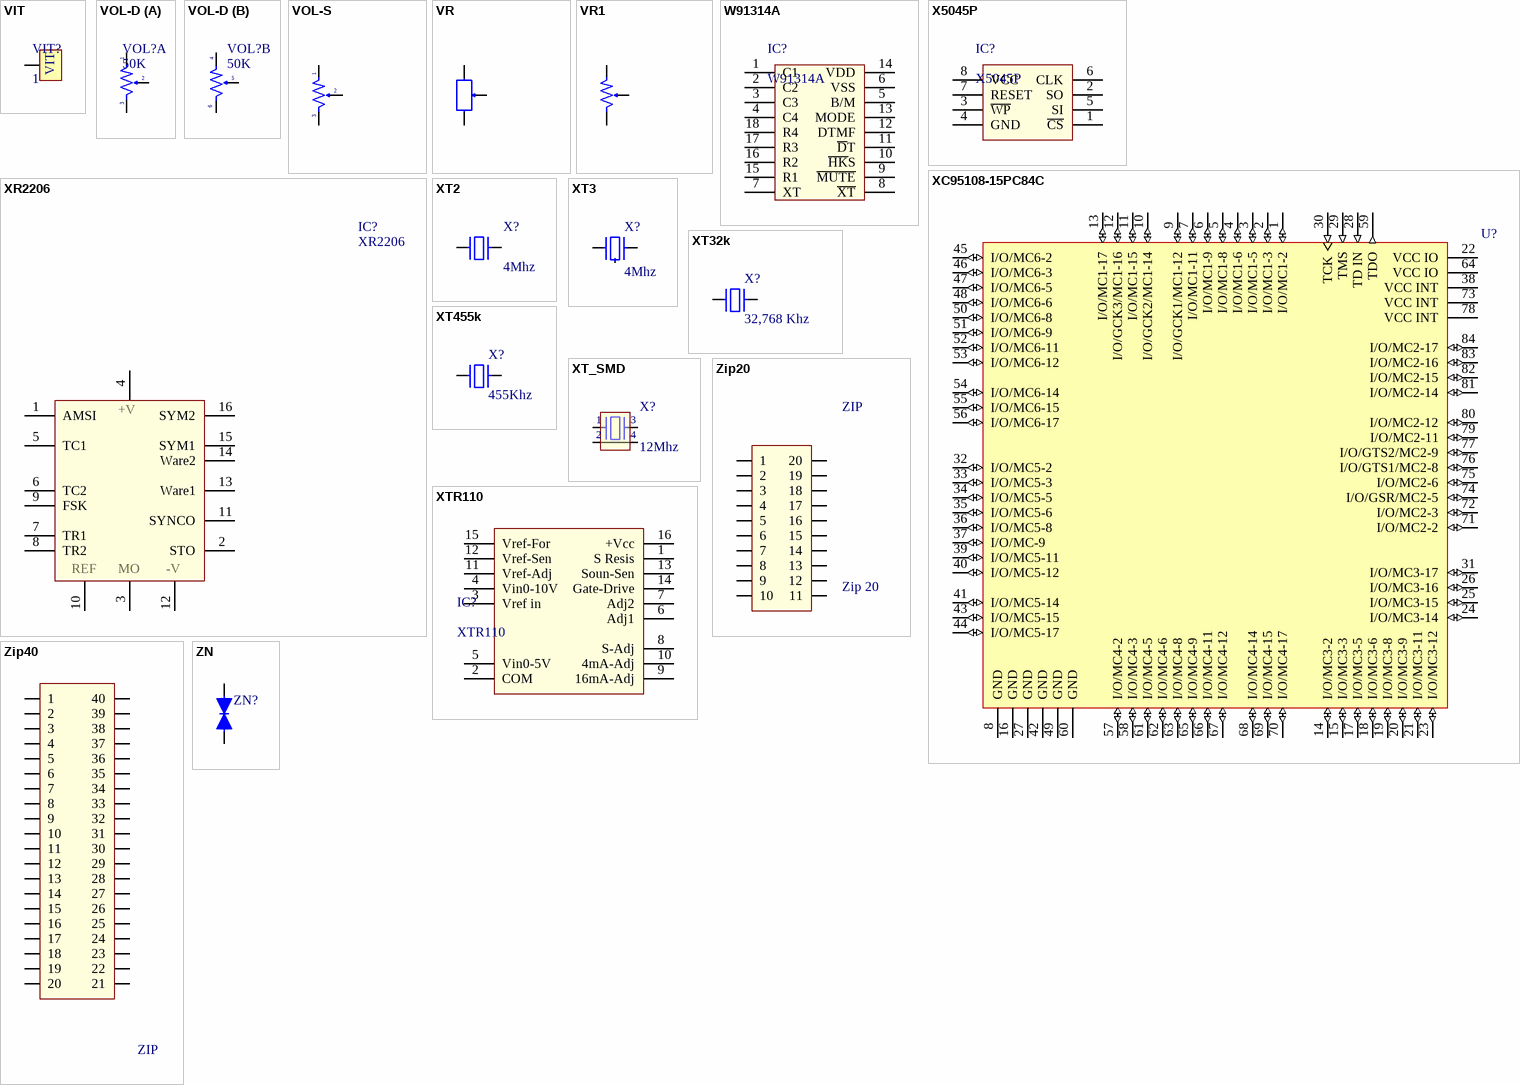
[diagram p18: symbols VIT to ZN]

## VIT
designator VIT?, comment 1
Oc Vit
footprint VIT
pins: VIT1 1

## VOL-D
designator VOL?, comment 50K
Volume control Dual; Value: Volume Dual 50K
footprint VOL-D (Volume control Dual)
footprint VOL_SMD2
part A pins: 1, 2, 3
part B pins: 4, 5, 6

## VOL-S
designator VOL?, comment 50K
Var Resistor; Value: Volume 50k
footprint VOL-S (Volume control single)
footprint VOL_SMD
pins: 1, 2, 3

## VR
designator VR?, comment 10K
Var Resistor; Value: VR 10K
footprint VR1 (Variable Resistor)
footprint VR (Resistor Variable)
pins: 1, 2, 3

## VR1
designator VR?, comment 10K
Var Resistor; Value: VR 10K
footprint VR1 (Variable Resistor)
footprint VR (Resistor Variable)
pins: 1, 2, 3

## W91314A
designator IC?
TONE/PULSE DIALER WITH  REDIAL FUNCTION; Creat by: VanDungEvn@Gmail.com
footprint DIP18/W0.3 (18 PIN, W 300mil, Pin to pin 100mil)
pins: 1 C1, 2 C2, 3 C3, 4 C4, 5 B/M, 6 VSS, 7 XT, 8 ~{XT}, 9 ~{MUTE}, 10 ~{HK}S, 11 ~{D}T, 12 DTMF, 13 MODE, 14 VDD, 15 R1, 16 R2, 17 R3, 18 R4

## X5045P
designator IC?
4K SPI EEPROM
footprint DIP8/W0.3 (8 PIN, W 300mil, Pin to pin 100mil)
pins: 1 ~{CS}, 2 SO, 3 ~{WP}, 4 GND, 5 SI, 6 CLK, 7 RESET, 8 VCC